# Altium integrated library Altera MAX 7000AE.IntLib: 310 symbols (part 14 of 22)
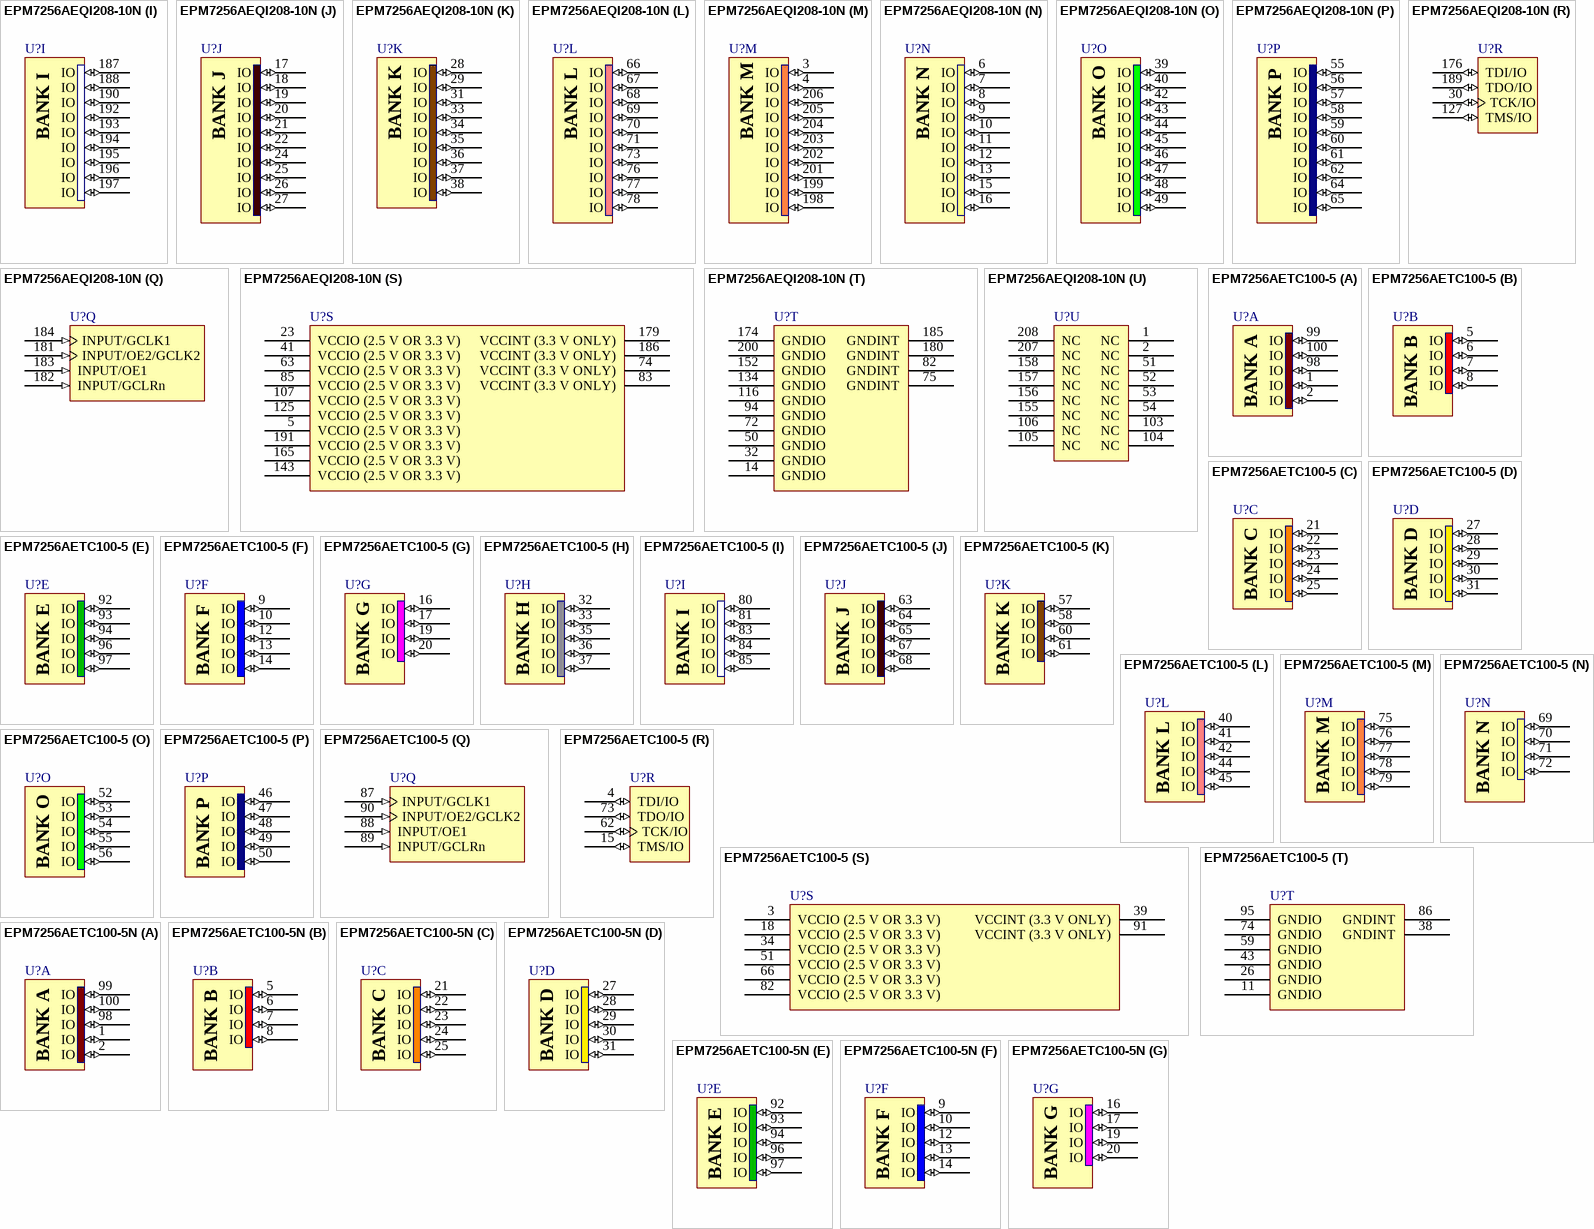
[diagram p140: symbols EPM7256AEQI208-10N to EPM7256AETC100-5N]

## EPM7256AETC100-5
designator U?
MAX 7000AE 3.3V CPLD, 256 Macrocells, 100-Pin TQFP, Speed Grade 5, Commercial Grade; Published: 23-Sep-2002; LatestRevisionDate: 13-Apr-2006; LatestRevisionNote: IPC-7351 Footprint Added.; DatasheetVersion: ver4.5, Sep-2003; PackageVersion: ver15.1, May-2008; PackageReference: TQFP100; Publisher: Altium Limited; PackageDescription: 100-Pin Plastic Thin Quad Flat Pack (TQFP100) - Wire Bond; Supplier 1: Digi-Key; Supplier Part Number 1: 544-2058-ND; Code_JEDEC: MS-026-AED; ComponentLink1Description: Manufacturer Link; ComponentLink1URL: http://www.altera.com/products/devices/max7k/m7k-index.html; ComponentLink2Description: Datasheet; ComponentLink2URL: http://www.altera.com/literature/ds/m7000a.pdf; ComponentLink3Description: Packaging Specification; ComponentLink3URL: http://www.altera.com/literature/ds/dspkg.pdf
footprint TQFP100_N (Thin QFP, 100-Leads, Body 14x14mm, Pitch 0.5mm, IPC Medium Density)
footprint TQFP100_L (Thin QFP, 100-Leads, Body 14x14mm, Pitch 0.5mm, IPC High Density)
footprint TQFP100_M (Thin QFP, 100-Leads, Body 14x14mm, Pitch 0.5mm, IPC Low Density)
3D model EPM7256AE-TQFP100 (100-Pin Plastic Thin Quad Flat Pack (TQFP100) - Wire Bond)
signal-integrity model max7kae (MAX 7000AE)
part A pins: 1 IO (io), 2 IO (io), 98 IO (io), 99 IO (io), 100 IO (io)
part B pins: 5 IO (io), 6 IO (io), 7 IO (io), 8 IO (io)
part C pins: 21 IO (io), 22 IO (io), 23 IO (io), 24 IO (io), 25 IO (io)
part D pins: 27 IO (io), 28 IO (io), 29 IO (io), 30 IO (io), 31 IO (io)
part E pins: 92 IO (io), 93 IO (io), 94 IO (io), 96 IO (io), 97 IO (io)
part F pins: 9 IO (io), 10 IO (io), 12 IO (io), 13 IO (io), 14 IO (io)
part G pins: 16 IO (io), 17 IO (io), 19 IO (io), 20 IO (io)
part H pins: 32 IO (io), 33 IO (io), 35 IO (io), 36 IO (io), 37 IO (io)
part I pins: 80 IO (io), 81 IO (io), 83 IO (io), 84 IO (io), 85 IO (io)
part J pins: 63 IO (io), 64 IO (io), 65 IO (io), 67 IO (io), 68 IO (io)
part K pins: 57 IO (io), 58 IO (io), 60 IO (io), 61 IO (io)
part L pins: 40 IO (io), 41 IO (io), 42 IO (io), 44 IO (io), 45 IO (io)
part M pins: 75 IO (io), 76 IO (io), 77 IO (io), 78 IO (io), 79 IO (io)
part N pins: 69 IO (io), 70 IO (io), 71 IO (io), 72 IO (io)
part O pins: 52 IO (io), 53 IO (io), 54 IO (io), 55 IO (io), 56 IO (io)
part P pins: 46 IO (io), 47 IO (io), 48 IO (io), 49 IO (io), 50 IO (io)
part Q pins: 87 INPUT/GCLK1 (in), 88 INPUT/OE1 (in), 89 INPUT/GCLRn (in), 90 INPUT/OE2/GCLK2 (in)
part R pins: 4 TDI/IO (io), 15 TMS/IO (io), 62 TCK/IO (io), 73 TDO/IO (io)
part S pins: 3 VCCIO (2.5 V OR 3.3 V) (power), 18 VCCIO (2.5 V OR 3.3 V) (power), 34 VCCIO (2.5 V OR 3.3 V) (power), 39 VCCINT (3.3 V ONLY) (power), 51 VCCIO (2.5 V OR 3.3 V) (power), 66 VCCIO (2.5 V OR 3.3 V) (power), 82 VCCIO (2.5 V OR 3.3 V) (power), 91 VCCINT (3.3 V ONLY) (power)
part T pins: 11 GNDIO (power), 26 GNDIO (power), 38 GNDINT (power), 43 GNDIO (power), 59 GNDIO (power), 74 GNDIO (power), 86 GNDINT (power), 95 GNDIO (power)
part A text: BANK A
part B text: BANK B
part C text: BANK C
part D text: BANK D
part E text: BANK E
part F text: BANK F
part G text: BANK G
part H text: BANK H
part I text: BANK I
part J text: BANK J
part K text: BANK K
part L text: BANK L
part M text: BANK M
part N text: BANK N
part O text: BANK O
part P text: BANK P

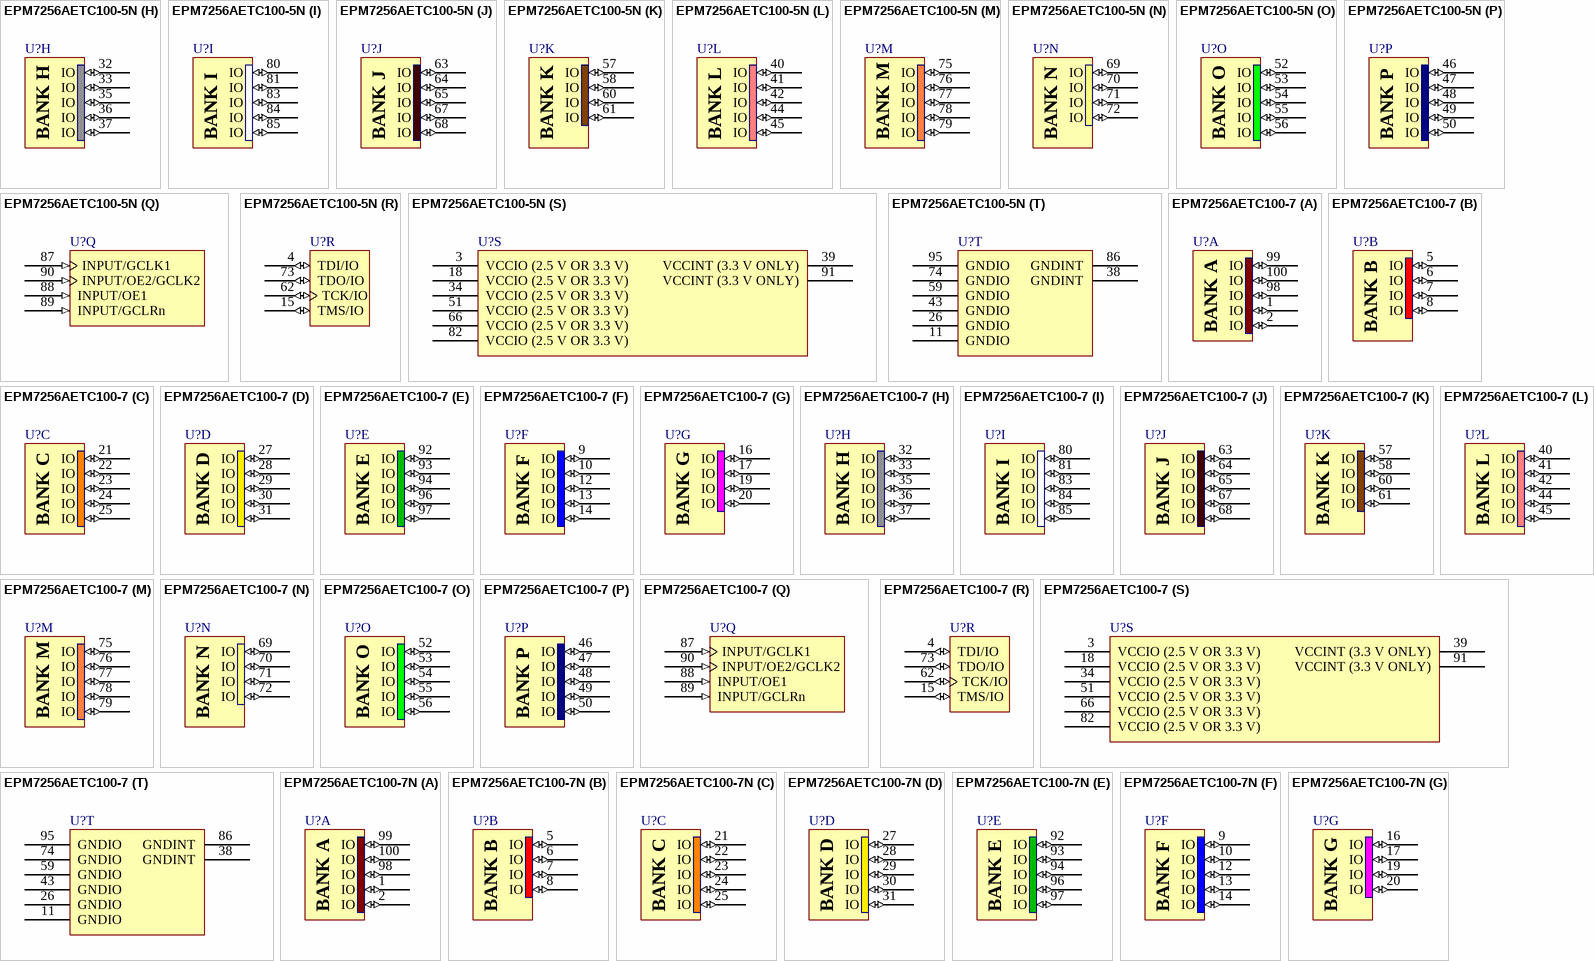
[diagram p72: symbols EPM7256AETC100-5N to EPM7256AETC100-7N]

## EPM7256AETC100-5N
designator U?
MAX 7000AE 3.3V CPLD, 256 Macrocells, 100-Pin TQFP, Speed Grade 5, Commercial Grade, Pb-Free; Published: 18-Aug-2005; LatestRevisionDate: 13-Apr-2006; LatestRevisionNote: IPC-7351 Footprint Added.; DatasheetVersion: ver4.5, Sep-2003; PackageVersion: ver15.1, May-2008; PackageReference: TQFP100; Publisher: Altium Limited; PackageDescription: 100-Pin Plastic Thin Quad Flat Pack (TQFP100) - Wire Bond; Supplier 1: Digi-Key; Supplier Part Number 1: EPM7256AETC100-5N-ND; Code_JEDEC: MS-026-AED; ComponentLink1Description: Manufacturer Link; ComponentLink1URL: http://www.altera.com/products/devices/max7k/m7k-index.html; ComponentLink2Description: Datasheet; ComponentLink2URL: http://www.altera.com/literature/ds/m7000a.pdf; ComponentLink3Description: Packaging Specification; ComponentLink3URL: http://www.altera.com/literature/ds/dspkg.pdf
footprint TQFP100_N (Thin QFP, 100-Leads, Body 14x14mm, Pitch 0.5mm, IPC Medium Density)
footprint TQFP100_L (Thin QFP, 100-Leads, Body 14x14mm, Pitch 0.5mm, IPC High Density)
footprint TQFP100_M (Thin QFP, 100-Leads, Body 14x14mm, Pitch 0.5mm, IPC Low Density)
3D model EPM7256AE-TQFP100 (100-Pin Plastic Thin Quad Flat Pack (TQFP100) - Wire Bond)
signal-integrity model max7kae (MAX 7000AE)
part A pins: 1 IO (io), 2 IO (io), 98 IO (io), 99 IO (io), 100 IO (io)
part B pins: 5 IO (io), 6 IO (io), 7 IO (io), 8 IO (io)
part C pins: 21 IO (io), 22 IO (io), 23 IO (io), 24 IO (io), 25 IO (io)
part D pins: 27 IO (io), 28 IO (io), 29 IO (io), 30 IO (io), 31 IO (io)
part E pins: 92 IO (io), 93 IO (io), 94 IO (io), 96 IO (io), 97 IO (io)
part F pins: 9 IO (io), 10 IO (io), 12 IO (io), 13 IO (io), 14 IO (io)
part G pins: 16 IO (io), 17 IO (io), 19 IO (io), 20 IO (io)
part H pins: 32 IO (io), 33 IO (io), 35 IO (io), 36 IO (io), 37 IO (io)
part I pins: 80 IO (io), 81 IO (io), 83 IO (io), 84 IO (io), 85 IO (io)
part J pins: 63 IO (io), 64 IO (io), 65 IO (io), 67 IO (io), 68 IO (io)
part K pins: 57 IO (io), 58 IO (io), 60 IO (io), 61 IO (io)
part L pins: 40 IO (io), 41 IO (io), 42 IO (io), 44 IO (io), 45 IO (io)
part M pins: 75 IO (io), 76 IO (io), 77 IO (io), 78 IO (io), 79 IO (io)
part N pins: 69 IO (io), 70 IO (io), 71 IO (io), 72 IO (io)
part O pins: 52 IO (io), 53 IO (io), 54 IO (io), 55 IO (io), 56 IO (io)
part P pins: 46 IO (io), 47 IO (io), 48 IO (io), 49 IO (io), 50 IO (io)
part Q pins: 87 INPUT/GCLK1 (in), 88 INPUT/OE1 (in), 89 INPUT/GCLRn (in), 90 INPUT/OE2/GCLK2 (in)
part R pins: 4 TDI/IO (io), 15 TMS/IO (io), 62 TCK/IO (io), 73 TDO/IO (io)
part S pins: 3 VCCIO (2.5 V OR 3.3 V) (power), 18 VCCIO (2.5 V OR 3.3 V) (power), 34 VCCIO (2.5 V OR 3.3 V) (power), 39 VCCINT (3.3 V ONLY) (power), 51 VCCIO (2.5 V OR 3.3 V) (power), 66 VCCIO (2.5 V OR 3.3 V) (power), 82 VCCIO (2.5 V OR 3.3 V) (power), 91 VCCINT (3.3 V ONLY) (power)
part T pins: 11 GNDIO (power), 26 GNDIO (power), 38 GNDINT (power), 43 GNDIO (power), 59 GNDIO (power), 74 GNDIO (power), 86 GNDINT (power), 95 GNDIO (power)
part A text: BANK A
part B text: BANK B
part C text: BANK C
part D text: BANK D
part E text: BANK E
part F text: BANK F
part G text: BANK G
part H text: BANK H
part I text: BANK I
part J text: BANK J
part K text: BANK K
part L text: BANK L
part M text: BANK M
part N text: BANK N
part O text: BANK O
part P text: BANK P

## EPM7256AETC100-7
designator U?
MAX 7000AE 3.3V CPLD, 256 Macrocells, 100-Pin TQFP, Speed Grade 7, Commercial Grade; Published: 23-Sep-2002; LatestRevisionDate: 13-Apr-2006; LatestRevisionNote: IPC-7351 Footprint Added.; DatasheetVersion: ver4.5, Sep-2003; PackageVersion: ver15.1, May-2008; PackageReference: TQFP100; Publisher: Altium Limited; PackageDescription: 100-Pin Plastic Thin Quad Flat Pack (TQFP100) - Wire Bond; Supplier 1: Digi-Key; Supplier Part Number 1: 544-2351-ND; Code_JEDEC: MS-026-AED; ComponentLink1Description: Manufacturer Link; ComponentLink1URL: http://www.altera.com/products/devices/max7k/m7k-index.html; ComponentLink2Description: Datasheet; ComponentLink2URL: http://www.altera.com/literature/ds/m7000a.pdf; ComponentLink3Description: Packaging Specification; ComponentLink3URL: http://www.altera.com/literature/ds/dspkg.pdf
footprint TQFP100_N (Thin QFP, 100-Leads, Body 14x14mm, Pitch 0.5mm, IPC Medium Density)
footprint TQFP100_L (Thin QFP, 100-Leads, Body 14x14mm, Pitch 0.5mm, IPC High Density)
footprint TQFP100_M (Thin QFP, 100-Leads, Body 14x14mm, Pitch 0.5mm, IPC Low Density)
3D model EPM7256AE-TQFP100 (100-Pin Plastic Thin Quad Flat Pack (TQFP100) - Wire Bond)
signal-integrity model max7kae (MAX 7000AE)
part A pins: 1 IO (io), 2 IO (io), 98 IO (io), 99 IO (io), 100 IO (io)
part B pins: 5 IO (io), 6 IO (io), 7 IO (io), 8 IO (io)
part C pins: 21 IO (io), 22 IO (io), 23 IO (io), 24 IO (io), 25 IO (io)
part D pins: 27 IO (io), 28 IO (io), 29 IO (io), 30 IO (io), 31 IO (io)
part E pins: 92 IO (io), 93 IO (io), 94 IO (io), 96 IO (io), 97 IO (io)
part F pins: 9 IO (io), 10 IO (io), 12 IO (io), 13 IO (io), 14 IO (io)
part G pins: 16 IO (io), 17 IO (io), 19 IO (io), 20 IO (io)
part H pins: 32 IO (io), 33 IO (io), 35 IO (io), 36 IO (io), 37 IO (io)
part I pins: 80 IO (io), 81 IO (io), 83 IO (io), 84 IO (io), 85 IO (io)
part J pins: 63 IO (io), 64 IO (io), 65 IO (io), 67 IO (io), 68 IO (io)
part K pins: 57 IO (io), 58 IO (io), 60 IO (io), 61 IO (io)
part L pins: 40 IO (io), 41 IO (io), 42 IO (io), 44 IO (io), 45 IO (io)
part M pins: 75 IO (io), 76 IO (io), 77 IO (io), 78 IO (io), 79 IO (io)
part N pins: 69 IO (io), 70 IO (io), 71 IO (io), 72 IO (io)
part O pins: 52 IO (io), 53 IO (io), 54 IO (io), 55 IO (io), 56 IO (io)
part P pins: 46 IO (io), 47 IO (io), 48 IO (io), 49 IO (io), 50 IO (io)
part Q pins: 87 INPUT/GCLK1 (in), 88 INPUT/OE1 (in), 89 INPUT/GCLRn (in), 90 INPUT/OE2/GCLK2 (in)
part R pins: 4 TDI/IO (io), 15 TMS/IO (io), 62 TCK/IO (io), 73 TDO/IO (io)
part S pins: 3 VCCIO (2.5 V OR 3.3 V) (power), 18 VCCIO (2.5 V OR 3.3 V) (power), 34 VCCIO (2.5 V OR 3.3 V) (power), 39 VCCINT (3.3 V ONLY) (power), 51 VCCIO (2.5 V OR 3.3 V) (power), 66 VCCIO (2.5 V OR 3.3 V) (power), 82 VCCIO (2.5 V OR 3.3 V) (power), 91 VCCINT (3.3 V ONLY) (power)
part T pins: 11 GNDIO (power), 26 GNDIO (power), 38 GNDINT (power), 43 GNDIO (power), 59 GNDIO (power), 74 GNDIO (power), 86 GNDINT (power), 95 GNDIO (power)
part A text: BANK A
part B text: BANK B
part C text: BANK C
part D text: BANK D
part E text: BANK E
part F text: BANK F
part G text: BANK G
part H text: BANK H
part I text: BANK I
part J text: BANK J
part K text: BANK K
part L text: BANK L
part M text: BANK M
part N text: BANK N
part O text: BANK O
part P text: BANK P

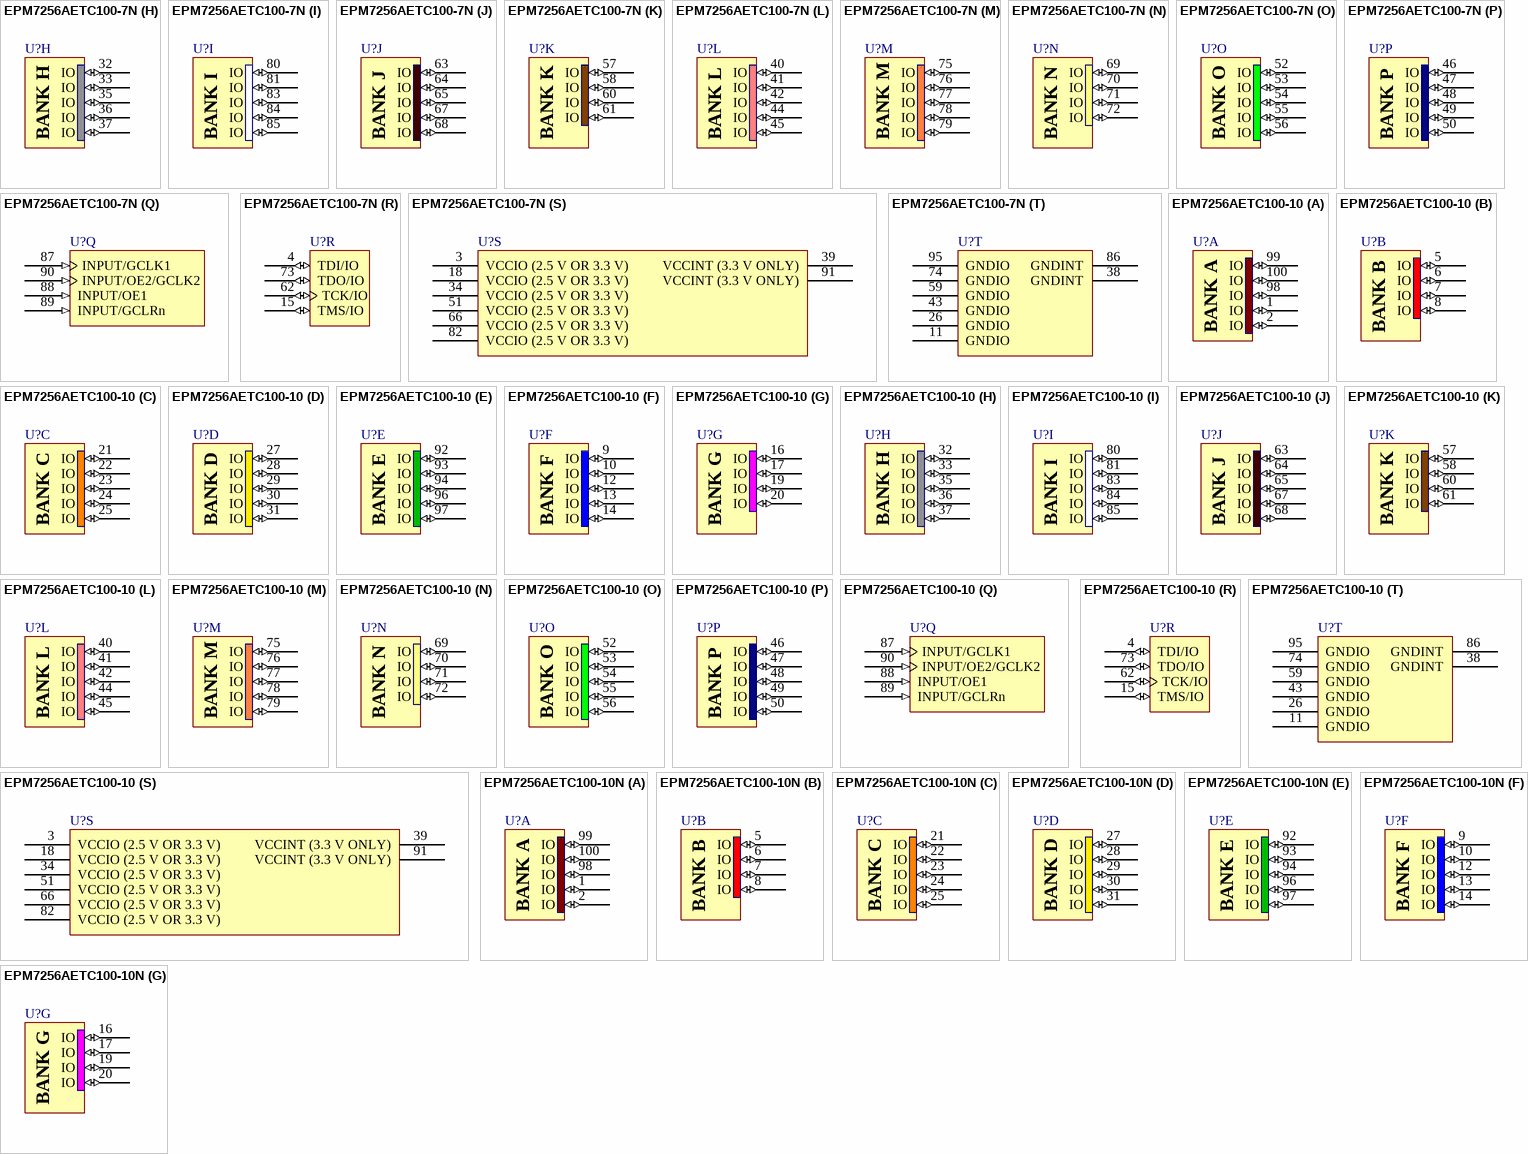
[diagram p73: symbols EPM7256AETC100-7N to EPM7256AETC100-10N]

## EPM7256AETC100-7N
designator U?
MAX 7000AE 3.3V CPLD, 256 Macrocells, 100-Pin TQFP, Speed Grade 7, Commercial Grade, Pb-Free; Published: 4-Mar-2005; LatestRevisionDate: 13-Apr-2006; LatestRevisionNote: IPC-7351 Footprint Added.; DatasheetVersion: ver4.5, Sep-2003; PackageVersion: ver15.1, May-2008; PackageReference: TQFP100; Publisher: Altium Limited; PackageDescription: 100-Pin Plastic Thin Quad Flat Pack (TQFP100) - Wire Bond; Supplier 1: Digi-Key; Supplier Part Number 1: 544-2352-ND; Code_JEDEC: MS-026-AED; ComponentLink1Description: Manufacturer Link; ComponentLink1URL: http://www.altera.com/products/devices/max7k/m7k-index.html; ComponentLink2Description: Datasheet; ComponentLink2URL: http://www.altera.com/literature/ds/m7000a.pdf; ComponentLink3Description: Packaging Specification; ComponentLink3URL: http://www.altera.com/literature/ds/dspkg.pdf
footprint TQFP100_N (Thin QFP, 100-Leads, Body 14x14mm, Pitch 0.5mm, IPC Medium Density)
footprint TQFP100_L (Thin QFP, 100-Leads, Body 14x14mm, Pitch 0.5mm, IPC High Density)
footprint TQFP100_M (Thin QFP, 100-Leads, Body 14x14mm, Pitch 0.5mm, IPC Low Density)
3D model EPM7256AE-TQFP100 (100-Pin Plastic Thin Quad Flat Pack (TQFP100) - Wire Bond)
signal-integrity model max7kae (MAX 7000AE)
part A pins: 1 IO (io), 2 IO (io), 98 IO (io), 99 IO (io), 100 IO (io)
part B pins: 5 IO (io), 6 IO (io), 7 IO (io), 8 IO (io)
part C pins: 21 IO (io), 22 IO (io), 23 IO (io), 24 IO (io), 25 IO (io)
part D pins: 27 IO (io), 28 IO (io), 29 IO (io), 30 IO (io), 31 IO (io)
part E pins: 92 IO (io), 93 IO (io), 94 IO (io), 96 IO (io), 97 IO (io)
part F pins: 9 IO (io), 10 IO (io), 12 IO (io), 13 IO (io), 14 IO (io)
part G pins: 16 IO (io), 17 IO (io), 19 IO (io), 20 IO (io)
part H pins: 32 IO (io), 33 IO (io), 35 IO (io), 36 IO (io), 37 IO (io)
part I pins: 80 IO (io), 81 IO (io), 83 IO (io), 84 IO (io), 85 IO (io)
part J pins: 63 IO (io), 64 IO (io), 65 IO (io), 67 IO (io), 68 IO (io)
part K pins: 57 IO (io), 58 IO (io), 60 IO (io), 61 IO (io)
part L pins: 40 IO (io), 41 IO (io), 42 IO (io), 44 IO (io), 45 IO (io)
part M pins: 75 IO (io), 76 IO (io), 77 IO (io), 78 IO (io), 79 IO (io)
part N pins: 69 IO (io), 70 IO (io), 71 IO (io), 72 IO (io)
part O pins: 52 IO (io), 53 IO (io), 54 IO (io), 55 IO (io), 56 IO (io)
part P pins: 46 IO (io), 47 IO (io), 48 IO (io), 49 IO (io), 50 IO (io)
part Q pins: 87 INPUT/GCLK1 (in), 88 INPUT/OE1 (in), 89 INPUT/GCLRn (in), 90 INPUT/OE2/GCLK2 (in)
part R pins: 4 TDI/IO (io), 15 TMS/IO (io), 62 TCK/IO (io), 73 TDO/IO (io)
part S pins: 3 VCCIO (2.5 V OR 3.3 V) (power), 18 VCCIO (2.5 V OR 3.3 V) (power), 34 VCCIO (2.5 V OR 3.3 V) (power), 39 VCCINT (3.3 V ONLY) (power), 51 VCCIO (2.5 V OR 3.3 V) (power), 66 VCCIO (2.5 V OR 3.3 V) (power), 82 VCCIO (2.5 V OR 3.3 V) (power), 91 VCCINT (3.3 V ONLY) (power)
part T pins: 11 GNDIO (power), 26 GNDIO (power), 38 GNDINT (power), 43 GNDIO (power), 59 GNDIO (power), 74 GNDIO (power), 86 GNDINT (power), 95 GNDIO (power)
part A text: BANK A
part B text: BANK B
part C text: BANK C
part D text: BANK D
part E text: BANK E
part F text: BANK F
part G text: BANK G
part H text: BANK H
part I text: BANK I
part J text: BANK J
part K text: BANK K
part L text: BANK L
part M text: BANK M
part N text: BANK N
part O text: BANK O
part P text: BANK P

## EPM7256AETC100-10
designator U?
MAX 7000AE 3.3V CPLD, 256 Macrocells, 100-Pin TQFP, Speed Grade 10, Commercial Grade; Published: 23-Sep-2002; LatestRevisionDate: 13-Apr-2006; LatestRevisionNote: IPC-7351 Footprint Added.; DatasheetVersion: ver4.5, Sep-2003; PackageVersion: ver15.1, May-2008; PackageReference: TQFP100; Publisher: Altium Limited; PackageDescription: 100-Pin Plastic Thin Quad Flat Pack (TQFP100) - Wire Bond; Supplier 1: Digi-Key; Supplier Part Number 1: 544-1217-ND; Code_JEDEC: MS-026-AED; ComponentLink1Description: Manufacturer Link; ComponentLink1URL: http://www.altera.com/products/devices/max7k/m7k-index.html; ComponentLink2Description: Datasheet; ComponentLink2URL: http://www.altera.com/literature/ds/m7000a.pdf; ComponentLink3Description: Packaging Specification; ComponentLink3URL: http://www.altera.com/literature/ds/dspkg.pdf
footprint TQFP100_N (Thin QFP, 100-Leads, Body 14x14mm, Pitch 0.5mm, IPC Medium Density)
footprint TQFP100_L (Thin QFP, 100-Leads, Body 14x14mm, Pitch 0.5mm, IPC High Density)
footprint TQFP100_M (Thin QFP, 100-Leads, Body 14x14mm, Pitch 0.5mm, IPC Low Density)
3D model EPM7256AE-TQFP100 (100-Pin Plastic Thin Quad Flat Pack (TQFP100) - Wire Bond)
signal-integrity model max7kae (MAX 7000AE)
part A pins: 1 IO (io), 2 IO (io), 98 IO (io), 99 IO (io), 100 IO (io)
part B pins: 5 IO (io), 6 IO (io), 7 IO (io), 8 IO (io)
part C pins: 21 IO (io), 22 IO (io), 23 IO (io), 24 IO (io), 25 IO (io)
part D pins: 27 IO (io), 28 IO (io), 29 IO (io), 30 IO (io), 31 IO (io)
part E pins: 92 IO (io), 93 IO (io), 94 IO (io), 96 IO (io), 97 IO (io)
part F pins: 9 IO (io), 10 IO (io), 12 IO (io), 13 IO (io), 14 IO (io)
part G pins: 16 IO (io), 17 IO (io), 19 IO (io), 20 IO (io)
part H pins: 32 IO (io), 33 IO (io), 35 IO (io), 36 IO (io), 37 IO (io)
part I pins: 80 IO (io), 81 IO (io), 83 IO (io), 84 IO (io), 85 IO (io)
part J pins: 63 IO (io), 64 IO (io), 65 IO (io), 67 IO (io), 68 IO (io)
part K pins: 57 IO (io), 58 IO (io), 60 IO (io), 61 IO (io)
part L pins: 40 IO (io), 41 IO (io), 42 IO (io), 44 IO (io), 45 IO (io)
part M pins: 75 IO (io), 76 IO (io), 77 IO (io), 78 IO (io), 79 IO (io)
part N pins: 69 IO (io), 70 IO (io), 71 IO (io), 72 IO (io)
part O pins: 52 IO (io), 53 IO (io), 54 IO (io), 55 IO (io), 56 IO (io)
part P pins: 46 IO (io), 47 IO (io), 48 IO (io), 49 IO (io), 50 IO (io)
part Q pins: 87 INPUT/GCLK1 (in), 88 INPUT/OE1 (in), 89 INPUT/GCLRn (in), 90 INPUT/OE2/GCLK2 (in)
part R pins: 4 TDI/IO (io), 15 TMS/IO (io), 62 TCK/IO (io), 73 TDO/IO (io)
part S pins: 3 VCCIO (2.5 V OR 3.3 V) (power), 18 VCCIO (2.5 V OR 3.3 V) (power), 34 VCCIO (2.5 V OR 3.3 V) (power), 39 VCCINT (3.3 V ONLY) (power), 51 VCCIO (2.5 V OR 3.3 V) (power), 66 VCCIO (2.5 V OR 3.3 V) (power), 82 VCCIO (2.5 V OR 3.3 V) (power), 91 VCCINT (3.3 V ONLY) (power)
part T pins: 11 GNDIO (power), 26 GNDIO (power), 38 GNDINT (power), 43 GNDIO (power), 59 GNDIO (power), 74 GNDIO (power), 86 GNDINT (power), 95 GNDIO (power)
part A text: BANK A
part B text: BANK B
part C text: BANK C
part D text: BANK D
part E text: BANK E
part F text: BANK F
part G text: BANK G
part H text: BANK H
part I text: BANK I
part J text: BANK J
part K text: BANK K
part L text: BANK L
part M text: BANK M
part N text: BANK N
part O text: BANK O
part P text: BANK P

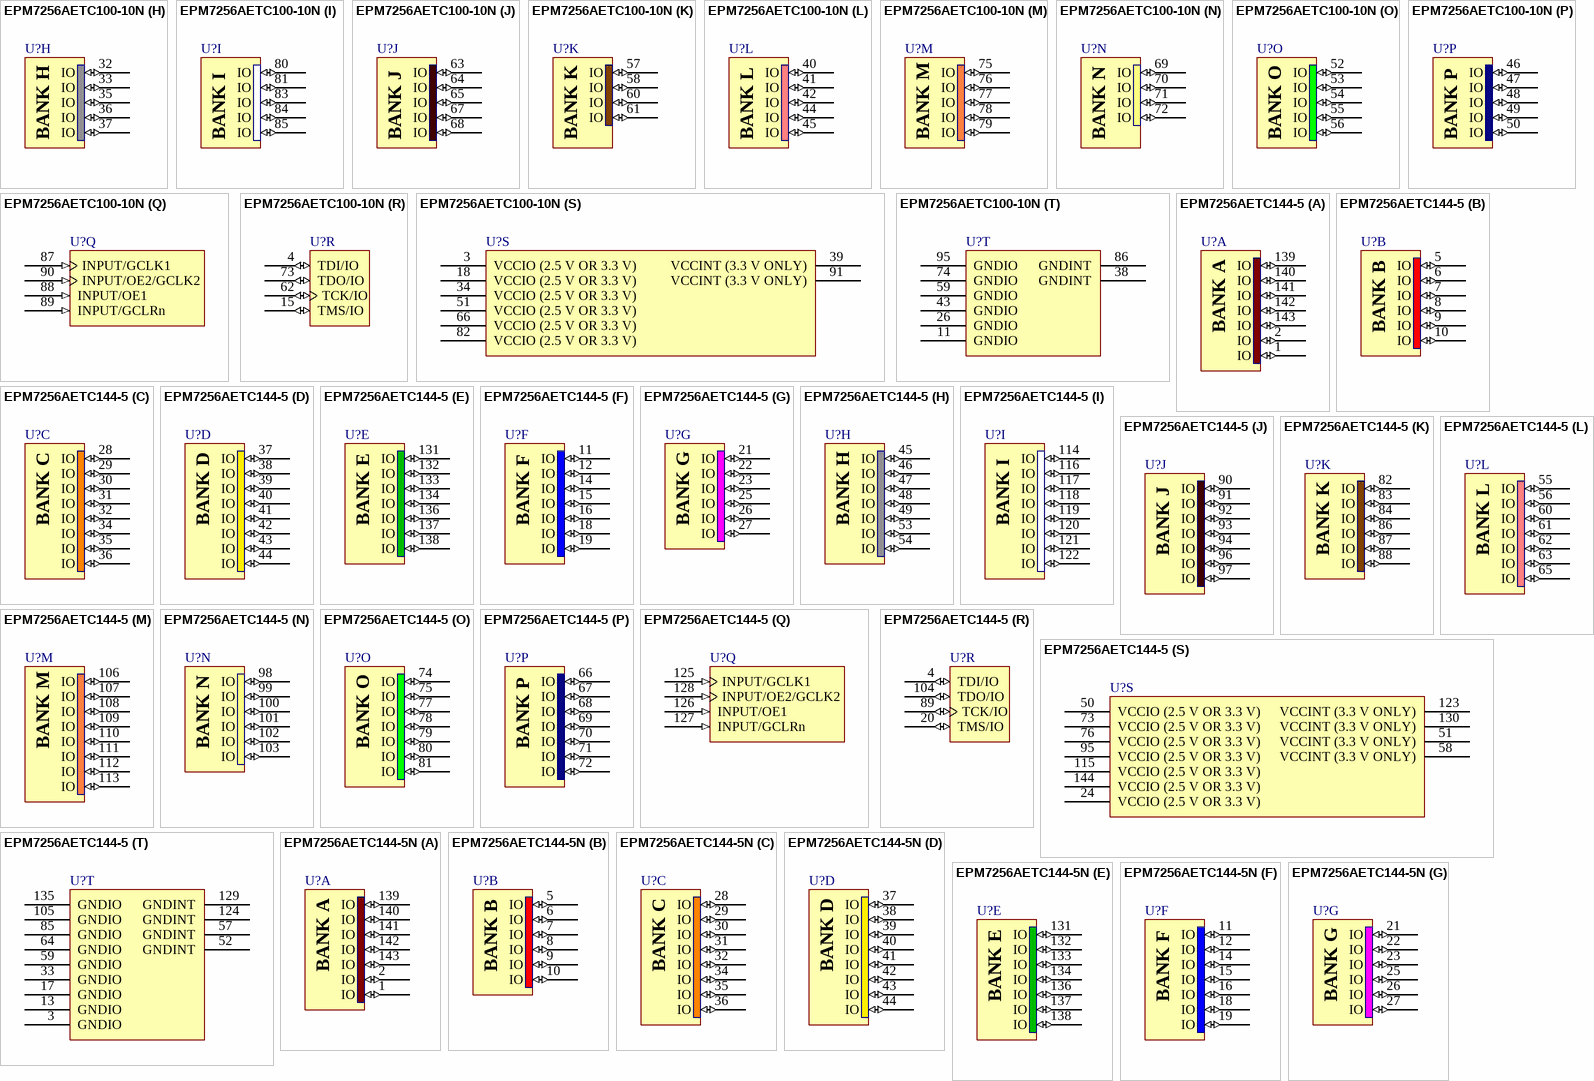
[diagram p74: symbols EPM7256AETC100-10N to EPM7256AETC144-5N]

## EPM7256AETC100-10N
designator U?
MAX 7000AE 3.3V CPLD, 256 Macrocells, 100-Pin TQFP, Speed Grade 10, Commercial Grade, Pb-Free; Published: 4-Mar-2005; LatestRevisionDate: 13-Apr-2006; LatestRevisionNote: IPC-7351 Footprint Added.; DatasheetVersion: ver4.5, Sep-2003; PackageVersion: ver15.1, May-2008; PackageReference: TQFP100; Publisher: Altium Limited; PackageDescription: 100-Pin Plastic Thin Quad Flat Pack (TQFP100) - Wire Bond; Supplier 1: Digi-Key; Supplier Part Number 1: 544-2057-ND; Code_JEDEC: MS-026-AED; ComponentLink1Description: Manufacturer Link; ComponentLink1URL: http://www.altera.com/products/devices/max7k/m7k-index.html; ComponentLink2Description: Datasheet; ComponentLink2URL: http://www.altera.com/literature/ds/m7000a.pdf; ComponentLink3Description: Packaging Specification; ComponentLink3URL: http://www.altera.com/literature/ds/dspkg.pdf
footprint TQFP100_N (Thin QFP, 100-Leads, Body 14x14mm, Pitch 0.5mm, IPC Medium Density)
footprint TQFP100_L (Thin QFP, 100-Leads, Body 14x14mm, Pitch 0.5mm, IPC High Density)
footprint TQFP100_M (Thin QFP, 100-Leads, Body 14x14mm, Pitch 0.5mm, IPC Low Density)
3D model EPM7256AE-TQFP100 (100-Pin Plastic Thin Quad Flat Pack (TQFP100) - Wire Bond)
signal-integrity model max7kae (MAX 7000AE)
part A pins: 1 IO (io), 2 IO (io), 98 IO (io), 99 IO (io), 100 IO (io)
part B pins: 5 IO (io), 6 IO (io), 7 IO (io), 8 IO (io)
part C pins: 21 IO (io), 22 IO (io), 23 IO (io), 24 IO (io), 25 IO (io)
part D pins: 27 IO (io), 28 IO (io), 29 IO (io), 30 IO (io), 31 IO (io)
part E pins: 92 IO (io), 93 IO (io), 94 IO (io), 96 IO (io), 97 IO (io)
part F pins: 9 IO (io), 10 IO (io), 12 IO (io), 13 IO (io), 14 IO (io)
part G pins: 16 IO (io), 17 IO (io), 19 IO (io), 20 IO (io)
part H pins: 32 IO (io), 33 IO (io), 35 IO (io), 36 IO (io), 37 IO (io)
part I pins: 80 IO (io), 81 IO (io), 83 IO (io), 84 IO (io), 85 IO (io)
part J pins: 63 IO (io), 64 IO (io), 65 IO (io), 67 IO (io), 68 IO (io)
part K pins: 57 IO (io), 58 IO (io), 60 IO (io), 61 IO (io)
part L pins: 40 IO (io), 41 IO (io), 42 IO (io), 44 IO (io), 45 IO (io)
part M pins: 75 IO (io), 76 IO (io), 77 IO (io), 78 IO (io), 79 IO (io)
part N pins: 69 IO (io), 70 IO (io), 71 IO (io), 72 IO (io)
part O pins: 52 IO (io), 53 IO (io), 54 IO (io), 55 IO (io), 56 IO (io)
part P pins: 46 IO (io), 47 IO (io), 48 IO (io), 49 IO (io), 50 IO (io)
part Q pins: 87 INPUT/GCLK1 (in), 88 INPUT/OE1 (in), 89 INPUT/GCLRn (in), 90 INPUT/OE2/GCLK2 (in)
part R pins: 4 TDI/IO (io), 15 TMS/IO (io), 62 TCK/IO (io), 73 TDO/IO (io)
part S pins: 3 VCCIO (2.5 V OR 3.3 V) (power), 18 VCCIO (2.5 V OR 3.3 V) (power), 34 VCCIO (2.5 V OR 3.3 V) (power), 39 VCCINT (3.3 V ONLY) (power), 51 VCCIO (2.5 V OR 3.3 V) (power), 66 VCCIO (2.5 V OR 3.3 V) (power), 82 VCCIO (2.5 V OR 3.3 V) (power), 91 VCCINT (3.3 V ONLY) (power)
part T pins: 11 GNDIO (power), 26 GNDIO (power), 38 GNDINT (power), 43 GNDIO (power), 59 GNDIO (power), 74 GNDIO (power), 86 GNDINT (power), 95 GNDIO (power)
part A text: BANK A
part B text: BANK B
part C text: BANK C
part D text: BANK D
part E text: BANK E
part F text: BANK F
part G text: BANK G
part H text: BANK H
part I text: BANK I
part J text: BANK J
part K text: BANK K
part L text: BANK L
part M text: BANK M
part N text: BANK N
part O text: BANK O
part P text: BANK P

## EPM7256AETC144-5
designator U?
MAX 7000AE 3.3V CPLD, 256 Macrocells, 144-Pin TQFP, Speed Grade 5, Commercial Grade; Published: 23-Sep-2002; LatestRevisionDate: 13-Apr-2006; LatestRevisionNote: IPC-7351 Footprint Added.; DatasheetVersion: ver4.5, Sep-2003; PackageVersion: ver15.4, Dec-2008; PackageReference: TQFP144; Publisher: Altium Limited; PackageDescription: 144-Pin Plastic Thin Quad Flat Pack (TQFP144) - Wire Bond; Supplier 1: Digi-Key; Supplier Part Number 1: 544-2060-ND; Code_JEDEC: MS-026-BFB; ComponentLink1Description: Manufacturer Link; ComponentLink1URL: http://www.altera.com/products/devices/max7k/m7k-index.html; ComponentLink2Description: Datasheet; ComponentLink2URL: http://www.altera.com/literature/ds/m7000a.pdf; ComponentLink3Description: Packaging Specification; ComponentLink3URL: http://www.altera.com/literature/ds/dspkg.pdf
footprint TQFP144_N (Thin QFP, 144-Leads, Body 20x20mm, Pitch 0.5mm, IPC Medium Density)
footprint TQFP144_L (Thin QFP, 144-Leads, Body 20x20mm, Pitch 0.5mm, IPC High Density)
footprint TQFP144_M (Thin QFP, 144-Leads, Body 20x20mm, Pitch 0.5mm, IPC Low Density)
3D model EPM7256AE-TQFP144 (144-Pin Plastic Thin Quad Flat Pack (TQFP144) - Wire Bond)
signal-integrity model max7kae (MAX 7000AE)
part A pins: 1 IO (io), 2 IO (io), 139 IO (io), 140 IO (io), 141 IO (io), 142 IO (io), 143 IO (io)
part B pins: 5 IO (io), 6 IO (io), 7 IO (io), 8 IO (io), 9 IO (io), 10 IO (io)
part C pins: 28 IO (io), 29 IO (io), 30 IO (io), 31 IO (io), 32 IO (io), 34 IO (io), 35 IO (io), 36 IO (io)
part D pins: 37 IO (io), 38 IO (io), 39 IO (io), 40 IO (io), 41 IO (io), 42 IO (io), 43 IO (io), 44 IO (io)
part E pins: 131 IO (io), 132 IO (io), 133 IO (io), 134 IO (io), 136 IO (io), 137 IO (io), 138 IO (io)
part F pins: 11 IO (io), 12 IO (io), 14 IO (io), 15 IO (io), 16 IO (io), 18 IO (io), 19 IO (io)
part G pins: 21 IO (io), 22 IO (io), 23 IO (io), 25 IO (io), 26 IO (io), 27 IO (io)
part H pins: 45 IO (io), 46 IO (io), 47 IO (io), 48 IO (io), 49 IO (io), 53 IO (io), 54 IO (io)
part I pins: 114 IO (io), 116 IO (io), 117 IO (io), 118 IO (io), 119 IO (io), 120 IO (io), 121 IO (io), 122 IO (io)
part J pins: 90 IO (io), 91 IO (io), 92 IO (io), 93 IO (io), 94 IO (io), 96 IO (io), 97 IO (io)
part K pins: 82 IO (io), 83 IO (io), 84 IO (io), 86 IO (io), 87 IO (io), 88 IO (io)
part L pins: 55 IO (io), 56 IO (io), 60 IO (io), 61 IO (io), 62 IO (io), 63 IO (io), 65 IO (io)
part M pins: 106 IO (io), 107 IO (io), 108 IO (io), 109 IO (io), 110 IO (io), 111 IO (io), 112 IO (io), 113 IO (io)
part N pins: 98 IO (io), 99 IO (io), 100 IO (io), 101 IO (io), 102 IO (io), 103 IO (io)
part O pins: 74 IO (io), 75 IO (io), 77 IO (io), 78 IO (io), 79 IO (io), 80 IO (io), 81 IO (io)
part P pins: 66 IO (io), 67 IO (io), 68 IO (io), 69 IO (io), 70 IO (io), 71 IO (io), 72 IO (io)
part Q pins: 125 INPUT/GCLK1 (in), 126 INPUT/OE1 (in), 127 INPUT/GCLRn (in), 128 INPUT/OE2/GCLK2 (in)
part R pins: 4 TDI/IO (io), 20 TMS/IO (io), 89 TCK/IO (io), 104 TDO/IO (io)
part S pins: 24 VCCIO (2.5 V OR 3.3 V) (power), 50 VCCIO (2.5 V OR 3.3 V) (power), 51 VCCINT (3.3 V ONLY) (power), 58 VCCINT (3.3 V ONLY) (power), 73 VCCIO (2.5 V OR 3.3 V) (power), 76 VCCIO (2.5 V OR 3.3 V) (power), 95 VCCIO (2.5 V OR 3.3 V) (power), 115 VCCIO (2.5 V OR 3.3 V) (power), 123 VCCINT (3.3 V ONLY) (power), 130 VCCINT (3.3 V ONLY) (power), 144 VCCIO (2.5 V OR 3.3 V) (power)
part T pins: 3 GNDIO (power), 13 GNDIO (power), 17 GNDIO (power), 33 GNDIO (power), 52 GNDINT (power), 57 GNDINT (power), 59 GNDIO (power), 64 GNDIO (power), 85 GNDIO (power), 105 GNDIO (power), 124 GNDINT (power), 129 GNDINT (power), 135 GNDIO (power)
part A text: BANK A
part B text: BANK B
part C text: BANK C
part D text: BANK D
part E text: BANK E
part F text: BANK F
part G text: BANK G
part H text: BANK H
part I text: BANK I
part J text: BANK J
part K text: BANK K
part L text: BANK L
part M text: BANK M
part N text: BANK N
part O text: BANK O
part P text: BANK P

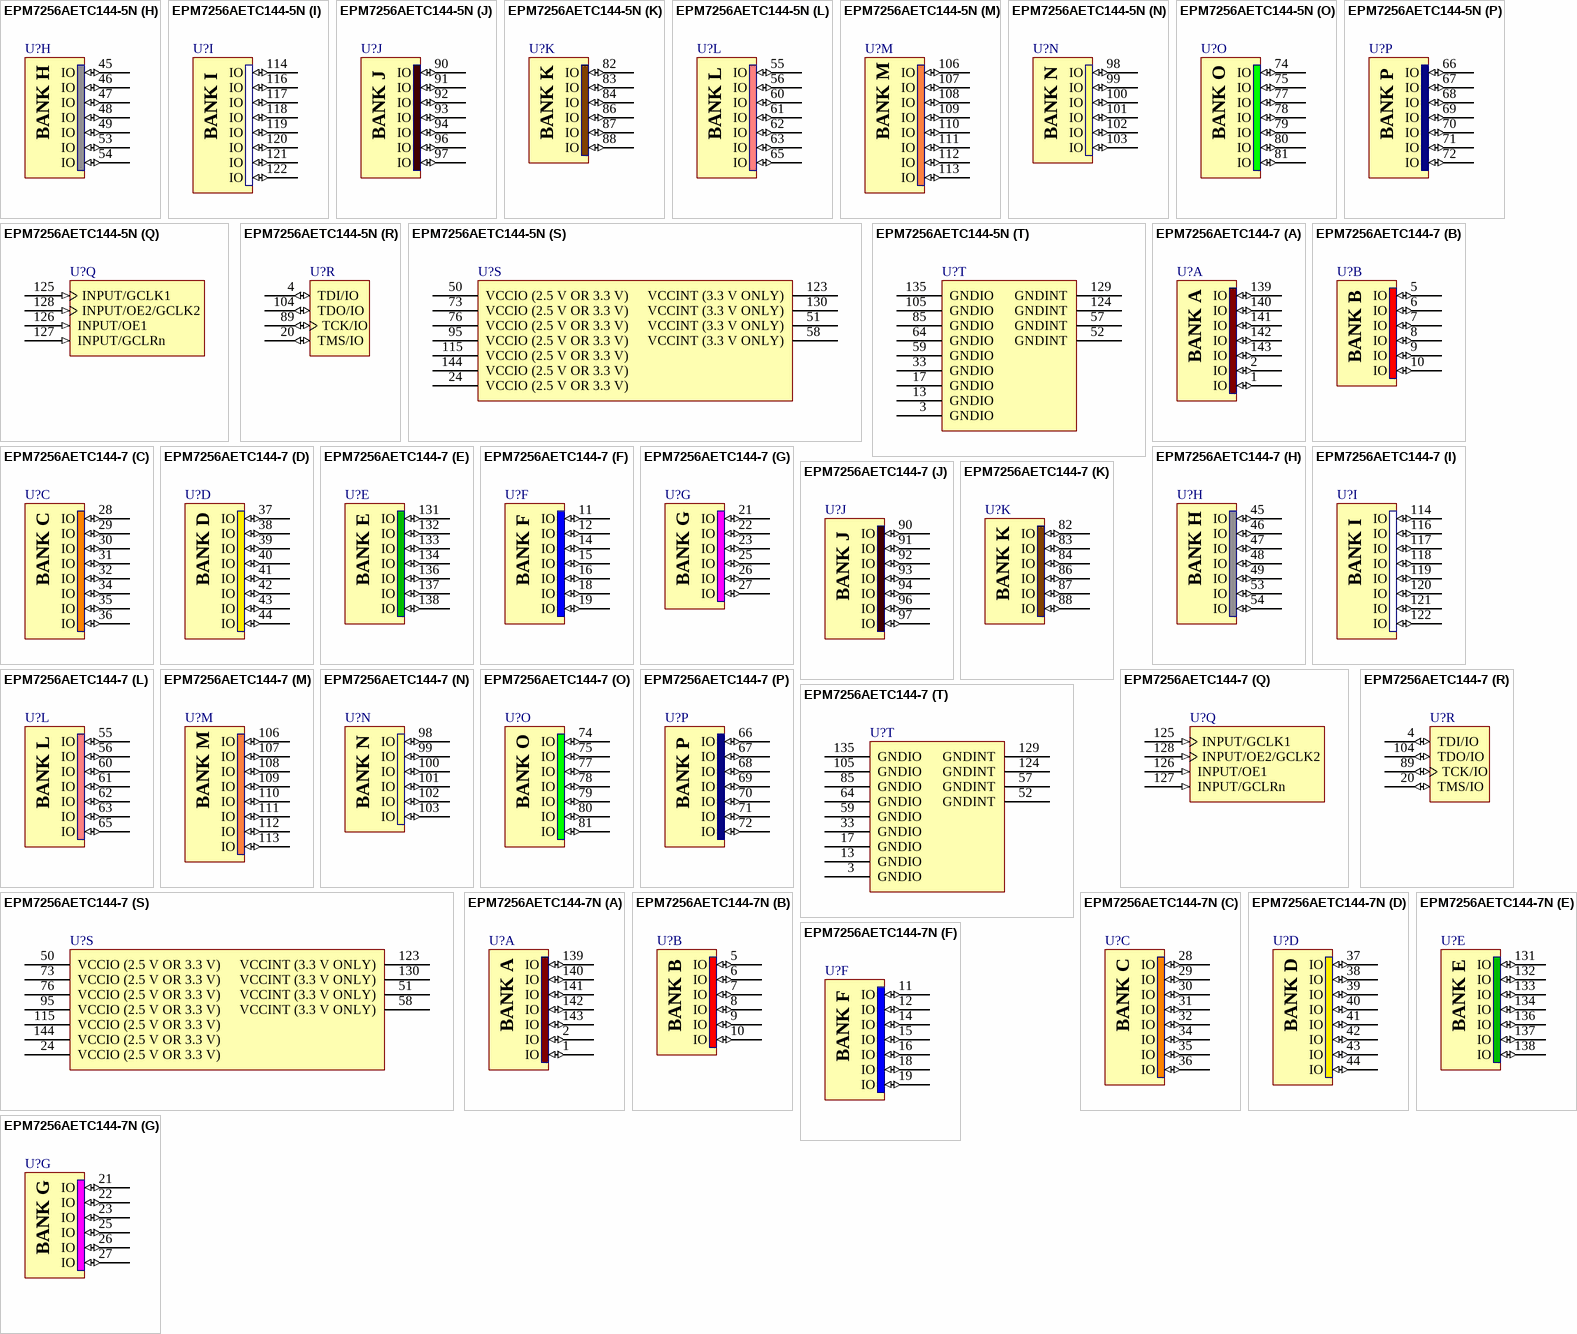
[diagram p75: symbols EPM7256AETC144-5N to EPM7256AETC144-7N]

## EPM7256AETC144-5N
designator U?
MAX 7000AE 3.3V CPLD, 256 Macrocells, 144-Pin TQFP, Speed Grade 5, Commercial Grade, Pb-Free; Published: 18-Aug-2005; LatestRevisionDate: 13-Apr-2006; LatestRevisionNote: IPC-7351 Footprint Added.; DatasheetVersion: ver4.5, Sep-2003; PackageVersion: ver15.4, Dec-2008; PackageReference: TQFP144; Publisher: Altium Limited; PackageDescription: 144-Pin Plastic Thin Quad Flat Pack (TQFP144) - Wire Bond; Supplier 1: Digi-Key; Supplier Part Number 1: 544-2588-ND; Code_JEDEC: MS-026-BFB; ComponentLink1Description: Manufacturer Link; ComponentLink1URL: http://www.altera.com/products/devices/max7k/m7k-index.html; ComponentLink2Description: Datasheet; ComponentLink2URL: http://www.altera.com/literature/ds/m7000a.pdf; ComponentLink3Description: Packaging Specification; ComponentLink3URL: http://www.altera.com/literature/ds/dspkg.pdf
footprint TQFP144_N (Thin QFP, 144-Leads, Body 20x20mm, Pitch 0.5mm, IPC Medium Density)
footprint TQFP144_L (Thin QFP, 144-Leads, Body 20x20mm, Pitch 0.5mm, IPC High Density)
footprint TQFP144_M (Thin QFP, 144-Leads, Body 20x20mm, Pitch 0.5mm, IPC Low Density)
3D model EPM7256AE-TQFP144 (144-Pin Plastic Thin Quad Flat Pack (TQFP144) - Wire Bond)
signal-integrity model max7kae (MAX 7000AE)
part A pins: 1 IO (io), 2 IO (io), 139 IO (io), 140 IO (io), 141 IO (io), 142 IO (io), 143 IO (io)
part B pins: 5 IO (io), 6 IO (io), 7 IO (io), 8 IO (io), 9 IO (io), 10 IO (io)
part C pins: 28 IO (io), 29 IO (io), 30 IO (io), 31 IO (io), 32 IO (io), 34 IO (io), 35 IO (io), 36 IO (io)
part D pins: 37 IO (io), 38 IO (io), 39 IO (io), 40 IO (io), 41 IO (io), 42 IO (io), 43 IO (io), 44 IO (io)
part E pins: 131 IO (io), 132 IO (io), 133 IO (io), 134 IO (io), 136 IO (io), 137 IO (io), 138 IO (io)
part F pins: 11 IO (io), 12 IO (io), 14 IO (io), 15 IO (io), 16 IO (io), 18 IO (io), 19 IO (io)
part G pins: 21 IO (io), 22 IO (io), 23 IO (io), 25 IO (io), 26 IO (io), 27 IO (io)
part H pins: 45 IO (io), 46 IO (io), 47 IO (io), 48 IO (io), 49 IO (io), 53 IO (io), 54 IO (io)
part I pins: 114 IO (io), 116 IO (io), 117 IO (io), 118 IO (io), 119 IO (io), 120 IO (io), 121 IO (io), 122 IO (io)
part J pins: 90 IO (io), 91 IO (io), 92 IO (io), 93 IO (io), 94 IO (io), 96 IO (io), 97 IO (io)
part K pins: 82 IO (io), 83 IO (io), 84 IO (io), 86 IO (io), 87 IO (io), 88 IO (io)
part L pins: 55 IO (io), 56 IO (io), 60 IO (io), 61 IO (io), 62 IO (io), 63 IO (io), 65 IO (io)
part M pins: 106 IO (io), 107 IO (io), 108 IO (io), 109 IO (io), 110 IO (io), 111 IO (io), 112 IO (io), 113 IO (io)
part N pins: 98 IO (io), 99 IO (io), 100 IO (io), 101 IO (io), 102 IO (io), 103 IO (io)
part O pins: 74 IO (io), 75 IO (io), 77 IO (io), 78 IO (io), 79 IO (io), 80 IO (io), 81 IO (io)
part P pins: 66 IO (io), 67 IO (io), 68 IO (io), 69 IO (io), 70 IO (io), 71 IO (io), 72 IO (io)
part Q pins: 125 INPUT/GCLK1 (in), 126 INPUT/OE1 (in), 127 INPUT/GCLRn (in), 128 INPUT/OE2/GCLK2 (in)
part R pins: 4 TDI/IO (io), 20 TMS/IO (io), 89 TCK/IO (io), 104 TDO/IO (io)
part S pins: 24 VCCIO (2.5 V OR 3.3 V) (power), 50 VCCIO (2.5 V OR 3.3 V) (power), 51 VCCINT (3.3 V ONLY) (power), 58 VCCINT (3.3 V ONLY) (power), 73 VCCIO (2.5 V OR 3.3 V) (power), 76 VCCIO (2.5 V OR 3.3 V) (power), 95 VCCIO (2.5 V OR 3.3 V) (power), 115 VCCIO (2.5 V OR 3.3 V) (power), 123 VCCINT (3.3 V ONLY) (power), 130 VCCINT (3.3 V ONLY) (power), 144 VCCIO (2.5 V OR 3.3 V) (power)
part T pins: 3 GNDIO (power), 13 GNDIO (power), 17 GNDIO (power), 33 GNDIO (power), 52 GNDINT (power), 57 GNDINT (power), 59 GNDIO (power), 64 GNDIO (power), 85 GNDIO (power), 105 GNDIO (power), 124 GNDINT (power), 129 GNDINT (power), 135 GNDIO (power)
part A text: BANK A
part B text: BANK B
part C text: BANK C
part D text: BANK D
part E text: BANK E
part F text: BANK F
part G text: BANK G
part H text: BANK H
part I text: BANK I
part J text: BANK J
part K text: BANK K
part L text: BANK L
part M text: BANK M
part N text: BANK N
part O text: BANK O
part P text: BANK P

## EPM7256AETC144-7
designator U?
MAX 7000AE 3.3V CPLD, 256 Macrocells, 144-Pin TQFP, Speed Grade 7, Commercial Grade; Published: 23-Sep-2002; LatestRevisionDate: 13-Apr-2006; LatestRevisionNote: IPC-7351 Footprint Added.; DatasheetVersion: ver4.5, Sep-2003; PackageVersion: ver15.4, Dec-2008; PackageReference: TQFP144; Publisher: Altium Limited; PackageDescription: 144-Pin Plastic Thin Quad Flat Pack (TQFP144) - Wire Bond; Supplier 1: Digi-Key; Supplier Part Number 1: 544-2353-ND; Code_JEDEC: MS-026-BFB; ComponentLink1Description: Manufacturer Link; ComponentLink1URL: http://www.altera.com/products/devices/max7k/m7k-index.html; ComponentLink2Description: Datasheet; ComponentLink2URL: http://www.altera.com/literature/ds/m7000a.pdf; ComponentLink3Description: Packaging Specification; ComponentLink3URL: http://www.altera.com/literature/ds/dspkg.pdf
footprint TQFP144_N (Thin QFP, 144-Leads, Body 20x20mm, Pitch 0.5mm, IPC Medium Density)
footprint TQFP144_L (Thin QFP, 144-Leads, Body 20x20mm, Pitch 0.5mm, IPC High Density)
footprint TQFP144_M (Thin QFP, 144-Leads, Body 20x20mm, Pitch 0.5mm, IPC Low Density)
3D model EPM7256AE-TQFP144 (144-Pin Plastic Thin Quad Flat Pack (TQFP144) - Wire Bond)
signal-integrity model max7kae (MAX 7000AE)
part A pins: 1 IO (io), 2 IO (io), 139 IO (io), 140 IO (io), 141 IO (io), 142 IO (io), 143 IO (io)
part B pins: 5 IO (io), 6 IO (io), 7 IO (io), 8 IO (io), 9 IO (io), 10 IO (io)
part C pins: 28 IO (io), 29 IO (io), 30 IO (io), 31 IO (io), 32 IO (io), 34 IO (io), 35 IO (io), 36 IO (io)
part D pins: 37 IO (io), 38 IO (io), 39 IO (io), 40 IO (io), 41 IO (io), 42 IO (io), 43 IO (io), 44 IO (io)
part E pins: 131 IO (io), 132 IO (io), 133 IO (io), 134 IO (io), 136 IO (io), 137 IO (io), 138 IO (io)
part F pins: 11 IO (io), 12 IO (io), 14 IO (io), 15 IO (io), 16 IO (io), 18 IO (io), 19 IO (io)
part G pins: 21 IO (io), 22 IO (io), 23 IO (io), 25 IO (io), 26 IO (io), 27 IO (io)
part H pins: 45 IO (io), 46 IO (io), 47 IO (io), 48 IO (io), 49 IO (io), 53 IO (io), 54 IO (io)
part I pins: 114 IO (io), 116 IO (io), 117 IO (io), 118 IO (io), 119 IO (io), 120 IO (io), 121 IO (io), 122 IO (io)
part J pins: 90 IO (io), 91 IO (io), 92 IO (io), 93 IO (io), 94 IO (io), 96 IO (io), 97 IO (io)
part K pins: 82 IO (io), 83 IO (io), 84 IO (io), 86 IO (io), 87 IO (io), 88 IO (io)
part L pins: 55 IO (io), 56 IO (io), 60 IO (io), 61 IO (io), 62 IO (io), 63 IO (io), 65 IO (io)
part M pins: 106 IO (io), 107 IO (io), 108 IO (io), 109 IO (io), 110 IO (io), 111 IO (io), 112 IO (io), 113 IO (io)
part N pins: 98 IO (io), 99 IO (io), 100 IO (io), 101 IO (io), 102 IO (io), 103 IO (io)
part O pins: 74 IO (io), 75 IO (io), 77 IO (io), 78 IO (io), 79 IO (io), 80 IO (io), 81 IO (io)
part P pins: 66 IO (io), 67 IO (io), 68 IO (io), 69 IO (io), 70 IO (io), 71 IO (io), 72 IO (io)
part Q pins: 125 INPUT/GCLK1 (in), 126 INPUT/OE1 (in), 127 INPUT/GCLRn (in), 128 INPUT/OE2/GCLK2 (in)
part R pins: 4 TDI/IO (io), 20 TMS/IO (io), 89 TCK/IO (io), 104 TDO/IO (io)
part S pins: 24 VCCIO (2.5 V OR 3.3 V) (power), 50 VCCIO (2.5 V OR 3.3 V) (power), 51 VCCINT (3.3 V ONLY) (power), 58 VCCINT (3.3 V ONLY) (power), 73 VCCIO (2.5 V OR 3.3 V) (power), 76 VCCIO (2.5 V OR 3.3 V) (power), 95 VCCIO (2.5 V OR 3.3 V) (power), 115 VCCIO (2.5 V OR 3.3 V) (power), 123 VCCINT (3.3 V ONLY) (power), 130 VCCINT (3.3 V ONLY) (power), 144 VCCIO (2.5 V OR 3.3 V) (power)
part T pins: 3 GNDIO (power), 13 GNDIO (power), 17 GNDIO (power), 33 GNDIO (power), 52 GNDINT (power), 57 GNDINT (power), 59 GNDIO (power), 64 GNDIO (power), 85 GNDIO (power), 105 GNDIO (power), 124 GNDINT (power), 129 GNDINT (power), 135 GNDIO (power)
part A text: BANK A
part B text: BANK B
part C text: BANK C
part D text: BANK D
part E text: BANK E
part F text: BANK F
part G text: BANK G
part H text: BANK H
part I text: BANK I
part J text: BANK J
part K text: BANK K
part L text: BANK L
part M text: BANK M
part N text: BANK N
part O text: BANK O
part P text: BANK P

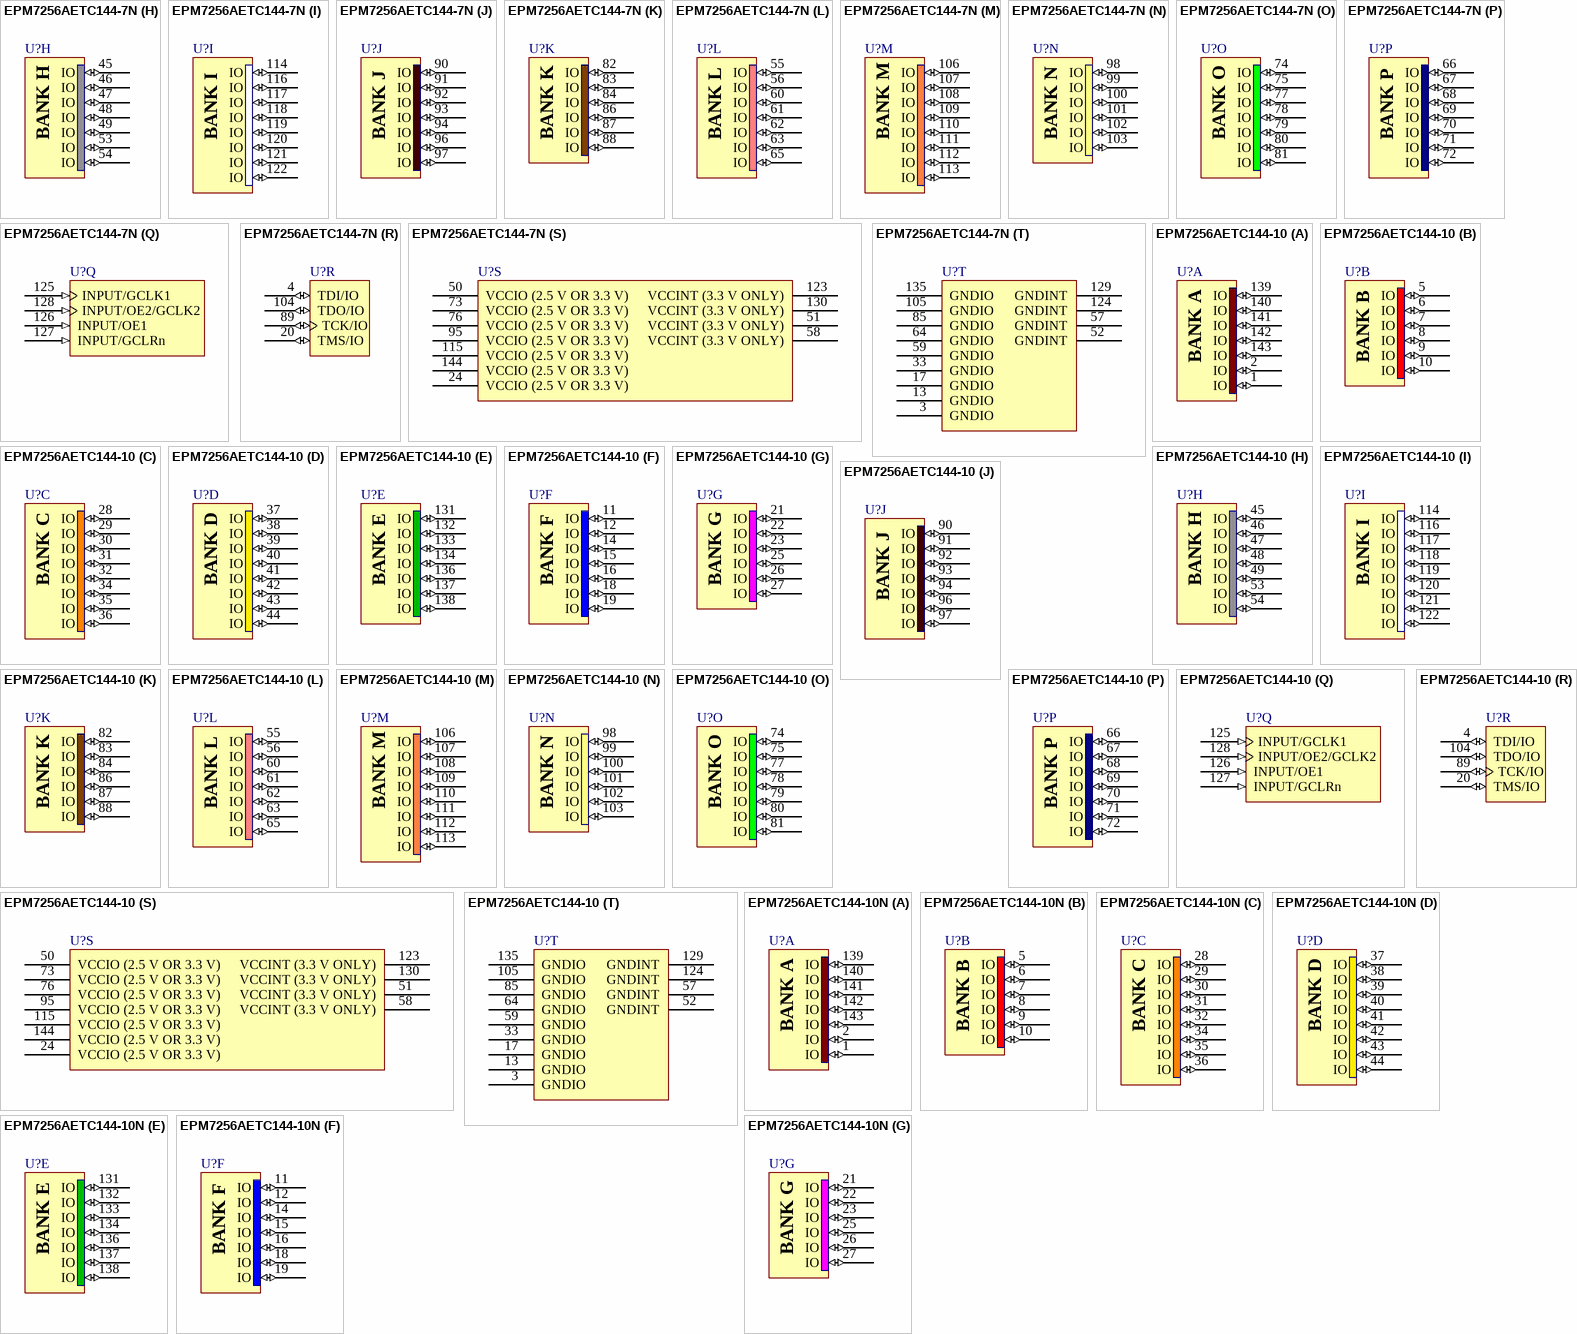
[diagram p76: symbols EPM7256AETC144-7N to EPM7256AETC144-10N]

## EPM7256AETC144-7N
designator U?
MAX 7000AE 3.3V CPLD, 256 Macrocells, 144-Pin TQFP, Speed Grade 7, Commercial Grade, Pb-Free; Published: 4-Mar-2005; LatestRevisionDate: 13-Apr-2006; LatestRevisionNote: IPC-7351 Footprint Added.; DatasheetVersion: ver4.5, Sep-2003; PackageVersion: ver15.4, Dec-2008; PackageReference: TQFP144; Publisher: Altium Limited; PackageDescription: 144-Pin Plastic Thin Quad Flat Pack (TQFP144) - Wire Bond; Supplier 1: Digi-Key; Supplier Part Number 1: 544-2354-ND; Supplier 2: Farnell; Supplier Part Number 2: 1549433; Code_JEDEC: MS-026-BFB; ComponentLink1Description: Manufacturer Link; ComponentLink1URL: http://www.altera.com/products/devices/max7k/m7k-index.html; ComponentLink2Description: Datasheet; ComponentLink2URL: http://www.altera.com/literature/ds/m7000a.pdf; ComponentLink3Description: Packaging Specification; ComponentLink3URL: http://www.altera.com/literature/ds/dspkg.pdf
footprint TQFP144_N (Thin QFP, 144-Leads, Body 20x20mm, Pitch 0.5mm, IPC Medium Density)
footprint TQFP144_L (Thin QFP, 144-Leads, Body 20x20mm, Pitch 0.5mm, IPC High Density)
footprint TQFP144_M (Thin QFP, 144-Leads, Body 20x20mm, Pitch 0.5mm, IPC Low Density)
3D model EPM7256AE-TQFP144 (144-Pin Plastic Thin Quad Flat Pack (TQFP144) - Wire Bond)
signal-integrity model max7kae (MAX 7000AE)
part A pins: 1 IO (io), 2 IO (io), 139 IO (io), 140 IO (io), 141 IO (io), 142 IO (io), 143 IO (io)
part B pins: 5 IO (io), 6 IO (io), 7 IO (io), 8 IO (io), 9 IO (io), 10 IO (io)
part C pins: 28 IO (io), 29 IO (io), 30 IO (io), 31 IO (io), 32 IO (io), 34 IO (io), 35 IO (io), 36 IO (io)
part D pins: 37 IO (io), 38 IO (io), 39 IO (io), 40 IO (io), 41 IO (io), 42 IO (io), 43 IO (io), 44 IO (io)
part E pins: 131 IO (io), 132 IO (io), 133 IO (io), 134 IO (io), 136 IO (io), 137 IO (io), 138 IO (io)
part F pins: 11 IO (io), 12 IO (io), 14 IO (io), 15 IO (io), 16 IO (io), 18 IO (io), 19 IO (io)
part G pins: 21 IO (io), 22 IO (io), 23 IO (io), 25 IO (io), 26 IO (io), 27 IO (io)
part H pins: 45 IO (io), 46 IO (io), 47 IO (io), 48 IO (io), 49 IO (io), 53 IO (io), 54 IO (io)
part I pins: 114 IO (io), 116 IO (io), 117 IO (io), 118 IO (io), 119 IO (io), 120 IO (io), 121 IO (io), 122 IO (io)
part J pins: 90 IO (io), 91 IO (io), 92 IO (io), 93 IO (io), 94 IO (io), 96 IO (io), 97 IO (io)
part K pins: 82 IO (io), 83 IO (io), 84 IO (io), 86 IO (io), 87 IO (io), 88 IO (io)
part L pins: 55 IO (io), 56 IO (io), 60 IO (io), 61 IO (io), 62 IO (io), 63 IO (io), 65 IO (io)
part M pins: 106 IO (io), 107 IO (io), 108 IO (io), 109 IO (io), 110 IO (io), 111 IO (io), 112 IO (io), 113 IO (io)
part N pins: 98 IO (io), 99 IO (io), 100 IO (io), 101 IO (io), 102 IO (io), 103 IO (io)
part O pins: 74 IO (io), 75 IO (io), 77 IO (io), 78 IO (io), 79 IO (io), 80 IO (io), 81 IO (io)
part P pins: 66 IO (io), 67 IO (io), 68 IO (io), 69 IO (io), 70 IO (io), 71 IO (io), 72 IO (io)
part Q pins: 125 INPUT/GCLK1 (in), 126 INPUT/OE1 (in), 127 INPUT/GCLRn (in), 128 INPUT/OE2/GCLK2 (in)
part R pins: 4 TDI/IO (io), 20 TMS/IO (io), 89 TCK/IO (io), 104 TDO/IO (io)
part S pins: 24 VCCIO (2.5 V OR 3.3 V) (power), 50 VCCIO (2.5 V OR 3.3 V) (power), 51 VCCINT (3.3 V ONLY) (power), 58 VCCINT (3.3 V ONLY) (power), 73 VCCIO (2.5 V OR 3.3 V) (power), 76 VCCIO (2.5 V OR 3.3 V) (power), 95 VCCIO (2.5 V OR 3.3 V) (power), 115 VCCIO (2.5 V OR 3.3 V) (power), 123 VCCINT (3.3 V ONLY) (power), 130 VCCINT (3.3 V ONLY) (power), 144 VCCIO (2.5 V OR 3.3 V) (power)
part T pins: 3 GNDIO (power), 13 GNDIO (power), 17 GNDIO (power), 33 GNDIO (power), 52 GNDINT (power), 57 GNDINT (power), 59 GNDIO (power), 64 GNDIO (power), 85 GNDIO (power), 105 GNDIO (power), 124 GNDINT (power), 129 GNDINT (power), 135 GNDIO (power)
part A text: BANK A
part B text: BANK B
part C text: BANK C
part D text: BANK D
part E text: BANK E
part F text: BANK F
part G text: BANK G
part H text: BANK H
part I text: BANK I
part J text: BANK J
part K text: BANK K
part L text: BANK L
part M text: BANK M
part N text: BANK N
part O text: BANK O
part P text: BANK P

## EPM7256AETC144-10
designator U?
MAX 7000AE 3.3V CPLD, 256 Macrocells, 144-Pin TQFP, Speed Grade 10, Commercial Grade; Published: 23-Sep-2002; LatestRevisionDate: 13-Apr-2006; LatestRevisionNote: IPC-7351 Footprint Added.; DatasheetVersion: ver4.5, Sep-2003; PackageVersion: ver15.4, Dec-2008; PackageReference: TQFP144; Publisher: Altium Limited; PackageDescription: 144-Pin Plastic Thin Quad Flat Pack (TQFP144) - Wire Bond; Supplier 1: Digi-Key; Supplier Part Number 1: 544-1218-ND; Code_JEDEC: MS-026-BFB; ComponentLink1Description: Manufacturer Link; ComponentLink1URL: http://www.altera.com/products/devices/max7k/m7k-index.html; ComponentLink2Description: Datasheet; ComponentLink2URL: http://www.altera.com/literature/ds/m7000a.pdf; ComponentLink3Description: Packaging Specification; ComponentLink3URL: http://www.altera.com/literature/ds/dspkg.pdf
footprint TQFP144_N (Thin QFP, 144-Leads, Body 20x20mm, Pitch 0.5mm, IPC Medium Density)
footprint TQFP144_L (Thin QFP, 144-Leads, Body 20x20mm, Pitch 0.5mm, IPC High Density)
footprint TQFP144_M (Thin QFP, 144-Leads, Body 20x20mm, Pitch 0.5mm, IPC Low Density)
3D model EPM7256AE-TQFP144 (144-Pin Plastic Thin Quad Flat Pack (TQFP144) - Wire Bond)
signal-integrity model max7kae (MAX 7000AE)
part A pins: 1 IO (io), 2 IO (io), 139 IO (io), 140 IO (io), 141 IO (io), 142 IO (io), 143 IO (io)
part B pins: 5 IO (io), 6 IO (io), 7 IO (io), 8 IO (io), 9 IO (io), 10 IO (io)
part C pins: 28 IO (io), 29 IO (io), 30 IO (io), 31 IO (io), 32 IO (io), 34 IO (io), 35 IO (io), 36 IO (io)
part D pins: 37 IO (io), 38 IO (io), 39 IO (io), 40 IO (io), 41 IO (io), 42 IO (io), 43 IO (io), 44 IO (io)
part E pins: 131 IO (io), 132 IO (io), 133 IO (io), 134 IO (io), 136 IO (io), 137 IO (io), 138 IO (io)
part F pins: 11 IO (io), 12 IO (io), 14 IO (io), 15 IO (io), 16 IO (io), 18 IO (io), 19 IO (io)
part G pins: 21 IO (io), 22 IO (io), 23 IO (io), 25 IO (io), 26 IO (io), 27 IO (io)
part H pins: 45 IO (io), 46 IO (io), 47 IO (io), 48 IO (io), 49 IO (io), 53 IO (io), 54 IO (io)
part I pins: 114 IO (io), 116 IO (io), 117 IO (io), 118 IO (io), 119 IO (io), 120 IO (io), 121 IO (io), 122 IO (io)
part J pins: 90 IO (io), 91 IO (io), 92 IO (io), 93 IO (io), 94 IO (io), 96 IO (io), 97 IO (io)
part K pins: 82 IO (io), 83 IO (io), 84 IO (io), 86 IO (io), 87 IO (io), 88 IO (io)
part L pins: 55 IO (io), 56 IO (io), 60 IO (io), 61 IO (io), 62 IO (io), 63 IO (io), 65 IO (io)
part M pins: 106 IO (io), 107 IO (io), 108 IO (io), 109 IO (io), 110 IO (io), 111 IO (io), 112 IO (io), 113 IO (io)
part N pins: 98 IO (io), 99 IO (io), 100 IO (io), 101 IO (io), 102 IO (io), 103 IO (io)
part O pins: 74 IO (io), 75 IO (io), 77 IO (io), 78 IO (io), 79 IO (io), 80 IO (io), 81 IO (io)
part P pins: 66 IO (io), 67 IO (io), 68 IO (io), 69 IO (io), 70 IO (io), 71 IO (io), 72 IO (io)
part Q pins: 125 INPUT/GCLK1 (in), 126 INPUT/OE1 (in), 127 INPUT/GCLRn (in), 128 INPUT/OE2/GCLK2 (in)
part R pins: 4 TDI/IO (io), 20 TMS/IO (io), 89 TCK/IO (io), 104 TDO/IO (io)
part S pins: 24 VCCIO (2.5 V OR 3.3 V) (power), 50 VCCIO (2.5 V OR 3.3 V) (power), 51 VCCINT (3.3 V ONLY) (power), 58 VCCINT (3.3 V ONLY) (power), 73 VCCIO (2.5 V OR 3.3 V) (power), 76 VCCIO (2.5 V OR 3.3 V) (power), 95 VCCIO (2.5 V OR 3.3 V) (power), 115 VCCIO (2.5 V OR 3.3 V) (power), 123 VCCINT (3.3 V ONLY) (power), 130 VCCINT (3.3 V ONLY) (power), 144 VCCIO (2.5 V OR 3.3 V) (power)
part T pins: 3 GNDIO (power), 13 GNDIO (power), 17 GNDIO (power), 33 GNDIO (power), 52 GNDINT (power), 57 GNDINT (power), 59 GNDIO (power), 64 GNDIO (power), 85 GNDIO (power), 105 GNDIO (power), 124 GNDINT (power), 129 GNDINT (power), 135 GNDIO (power)
part A text: BANK A
part B text: BANK B
part C text: BANK C
part D text: BANK D
part E text: BANK E
part F text: BANK F
part G text: BANK G
part H text: BANK H
part I text: BANK I
part J text: BANK J
part K text: BANK K
part L text: BANK L
part M text: BANK M
part N text: BANK N
part O text: BANK O
part P text: BANK P

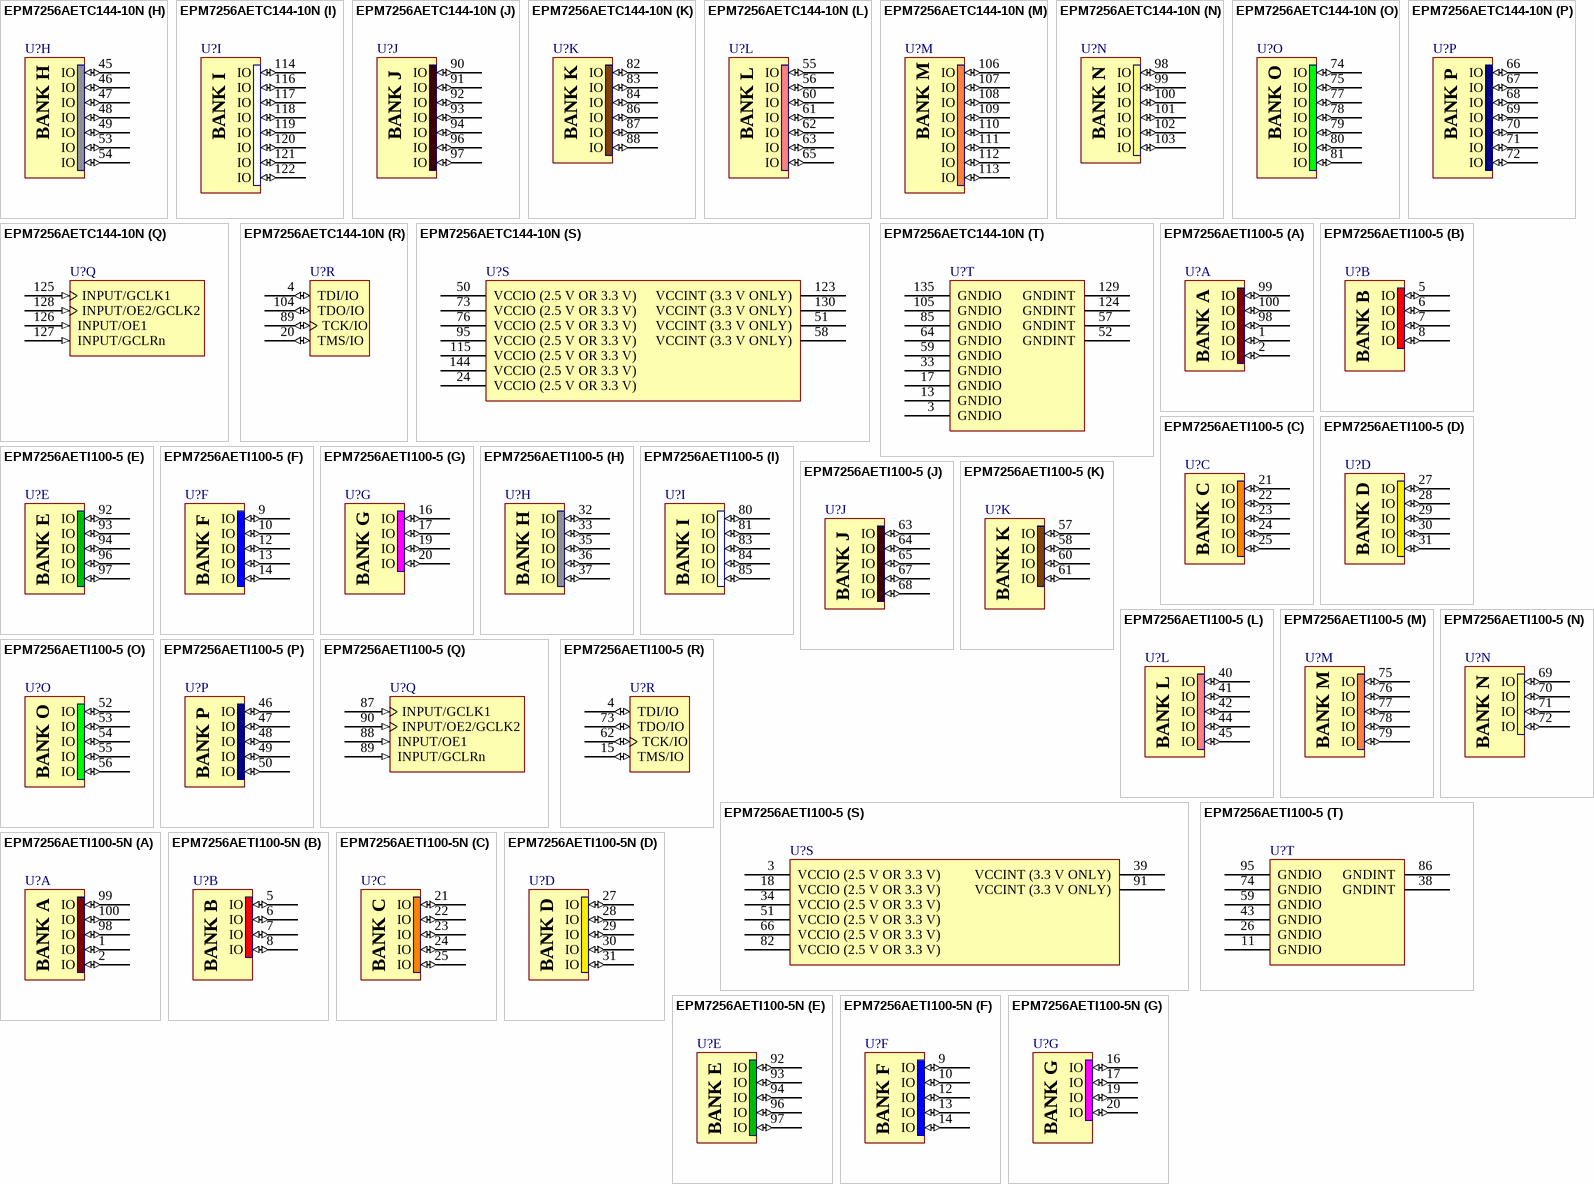
[diagram p77: symbols EPM7256AETC144-10N to EPM7256AETI100-5N]

## EPM7256AETC144-10N
designator U?
MAX 7000AE 3.3V CPLD, 256 Macrocells, 144-Pin TQFP, Speed Grade 10, Commercial Grade, Pb-Free; Published: 4-Mar-2005; LatestRevisionDate: 13-Apr-2006; LatestRevisionNote: IPC-7351 Footprint Added.; DatasheetVersion: ver4.5, Sep-2003; PackageVersion: ver15.4, Dec-2008; PackageReference: TQFP144; Publisher: Altium Limited; PackageDescription: 144-Pin Plastic Thin Quad Flat Pack (TQFP144) - Wire Bond; Supplier 1: Digi-Key; Supplier Part Number 1: 544-2059-ND; Code_JEDEC: MS-026-BFB; ComponentLink1Description: Manufacturer Link; ComponentLink1URL: http://www.altera.com/products/devices/max7k/m7k-index.html; ComponentLink2Description: Datasheet; ComponentLink2URL: http://www.altera.com/literature/ds/m7000a.pdf; ComponentLink3Description: Packaging Specification; ComponentLink3URL: http://www.altera.com/literature/ds/dspkg.pdf
footprint TQFP144_N (Thin QFP, 144-Leads, Body 20x20mm, Pitch 0.5mm, IPC Medium Density)
footprint TQFP144_L (Thin QFP, 144-Leads, Body 20x20mm, Pitch 0.5mm, IPC High Density)
footprint TQFP144_M (Thin QFP, 144-Leads, Body 20x20mm, Pitch 0.5mm, IPC Low Density)
3D model EPM7256AE-TQFP144 (144-Pin Plastic Thin Quad Flat Pack (TQFP144) - Wire Bond)
signal-integrity model max7kae (MAX 7000AE)
part A pins: 1 IO (io), 2 IO (io), 139 IO (io), 140 IO (io), 141 IO (io), 142 IO (io), 143 IO (io)
part B pins: 5 IO (io), 6 IO (io), 7 IO (io), 8 IO (io), 9 IO (io), 10 IO (io)
part C pins: 28 IO (io), 29 IO (io), 30 IO (io), 31 IO (io), 32 IO (io), 34 IO (io), 35 IO (io), 36 IO (io)
part D pins: 37 IO (io), 38 IO (io), 39 IO (io), 40 IO (io), 41 IO (io), 42 IO (io), 43 IO (io), 44 IO (io)
part E pins: 131 IO (io), 132 IO (io), 133 IO (io), 134 IO (io), 136 IO (io), 137 IO (io), 138 IO (io)
part F pins: 11 IO (io), 12 IO (io), 14 IO (io), 15 IO (io), 16 IO (io), 18 IO (io), 19 IO (io)
part G pins: 21 IO (io), 22 IO (io), 23 IO (io), 25 IO (io), 26 IO (io), 27 IO (io)
part H pins: 45 IO (io), 46 IO (io), 47 IO (io), 48 IO (io), 49 IO (io), 53 IO (io), 54 IO (io)
part I pins: 114 IO (io), 116 IO (io), 117 IO (io), 118 IO (io), 119 IO (io), 120 IO (io), 121 IO (io), 122 IO (io)
part J pins: 90 IO (io), 91 IO (io), 92 IO (io), 93 IO (io), 94 IO (io), 96 IO (io), 97 IO (io)
part K pins: 82 IO (io), 83 IO (io), 84 IO (io), 86 IO (io), 87 IO (io), 88 IO (io)
part L pins: 55 IO (io), 56 IO (io), 60 IO (io), 61 IO (io), 62 IO (io), 63 IO (io), 65 IO (io)
part M pins: 106 IO (io), 107 IO (io), 108 IO (io), 109 IO (io), 110 IO (io), 111 IO (io), 112 IO (io), 113 IO (io)
part N pins: 98 IO (io), 99 IO (io), 100 IO (io), 101 IO (io), 102 IO (io), 103 IO (io)
part O pins: 74 IO (io), 75 IO (io), 77 IO (io), 78 IO (io), 79 IO (io), 80 IO (io), 81 IO (io)
part P pins: 66 IO (io), 67 IO (io), 68 IO (io), 69 IO (io), 70 IO (io), 71 IO (io), 72 IO (io)
part Q pins: 125 INPUT/GCLK1 (in), 126 INPUT/OE1 (in), 127 INPUT/GCLRn (in), 128 INPUT/OE2/GCLK2 (in)
part R pins: 4 TDI/IO (io), 20 TMS/IO (io), 89 TCK/IO (io), 104 TDO/IO (io)
part S pins: 24 VCCIO (2.5 V OR 3.3 V) (power), 50 VCCIO (2.5 V OR 3.3 V) (power), 51 VCCINT (3.3 V ONLY) (power), 58 VCCINT (3.3 V ONLY) (power), 73 VCCIO (2.5 V OR 3.3 V) (power), 76 VCCIO (2.5 V OR 3.3 V) (power), 95 VCCIO (2.5 V OR 3.3 V) (power), 115 VCCIO (2.5 V OR 3.3 V) (power), 123 VCCINT (3.3 V ONLY) (power), 130 VCCINT (3.3 V ONLY) (power), 144 VCCIO (2.5 V OR 3.3 V) (power)
part T pins: 3 GNDIO (power), 13 GNDIO (power), 17 GNDIO (power), 33 GNDIO (power), 52 GNDINT (power), 57 GNDINT (power), 59 GNDIO (power), 64 GNDIO (power), 85 GNDIO (power), 105 GNDIO (power), 124 GNDINT (power), 129 GNDINT (power), 135 GNDIO (power)
part A text: BANK A
part B text: BANK B
part C text: BANK C
part D text: BANK D
part E text: BANK E
part F text: BANK F
part G text: BANK G
part H text: BANK H
part I text: BANK I
part J text: BANK J
part K text: BANK K
part L text: BANK L
part M text: BANK M
part N text: BANK N
part O text: BANK O
part P text: BANK P

## EPM7256AETI100-5
designator U?
MAX 7000AE 3.3V CPLD, 256 Macrocells, 100-Pin TQFP, Speed Grade 5, Industrial Grade; Published: 17-Sep-2003; LatestRevisionDate: 13-Apr-2006; LatestRevisionNote: IPC-7351 Footprint Added.; DatasheetVersion: ver4.5, Sep-2003; PackageVersion: ver15.1, May-2008; PackageReference: TQFP100; Publisher: Altium Limited; PackageDescription: 100-Pin Plastic Thin Quad Flat Pack (TQFP100) - Wire Bond; Code_JEDEC: MS-026-AED; ComponentLink1Description: Manufacturer Link; ComponentLink1URL: http://www.altera.com/products/devices/max7k/m7k-index.html; ComponentLink2Description: Datasheet; ComponentLink2URL: http://www.altera.com/literature/ds/m7000a.pdf; ComponentLink3Description: Packaging Specification; ComponentLink3URL: http://www.altera.com/literature/ds/dspkg.pdf
footprint TQFP100_N (Thin QFP, 100-Leads, Body 14x14mm, Pitch 0.5mm, IPC Medium Density)
footprint TQFP100_L (Thin QFP, 100-Leads, Body 14x14mm, Pitch 0.5mm, IPC High Density)
footprint TQFP100_M (Thin QFP, 100-Leads, Body 14x14mm, Pitch 0.5mm, IPC Low Density)
3D model EPM7256AE-TQFP100 (100-Pin Plastic Thin Quad Flat Pack (TQFP100) - Wire Bond)
signal-integrity model max7kae (MAX 7000AE)
part A pins: 1 IO (io), 2 IO (io), 98 IO (io), 99 IO (io), 100 IO (io)
part B pins: 5 IO (io), 6 IO (io), 7 IO (io), 8 IO (io)
part C pins: 21 IO (io), 22 IO (io), 23 IO (io), 24 IO (io), 25 IO (io)
part D pins: 27 IO (io), 28 IO (io), 29 IO (io), 30 IO (io), 31 IO (io)
part E pins: 92 IO (io), 93 IO (io), 94 IO (io), 96 IO (io), 97 IO (io)
part F pins: 9 IO (io), 10 IO (io), 12 IO (io), 13 IO (io), 14 IO (io)
part G pins: 16 IO (io), 17 IO (io), 19 IO (io), 20 IO (io)
part H pins: 32 IO (io), 33 IO (io), 35 IO (io), 36 IO (io), 37 IO (io)
part I pins: 80 IO (io), 81 IO (io), 83 IO (io), 84 IO (io), 85 IO (io)
part J pins: 63 IO (io), 64 IO (io), 65 IO (io), 67 IO (io), 68 IO (io)
part K pins: 57 IO (io), 58 IO (io), 60 IO (io), 61 IO (io)
part L pins: 40 IO (io), 41 IO (io), 42 IO (io), 44 IO (io), 45 IO (io)
part M pins: 75 IO (io), 76 IO (io), 77 IO (io), 78 IO (io), 79 IO (io)
part N pins: 69 IO (io), 70 IO (io), 71 IO (io), 72 IO (io)
part O pins: 52 IO (io), 53 IO (io), 54 IO (io), 55 IO (io), 56 IO (io)
part P pins: 46 IO (io), 47 IO (io), 48 IO (io), 49 IO (io), 50 IO (io)
part Q pins: 87 INPUT/GCLK1 (in), 88 INPUT/OE1 (in), 89 INPUT/GCLRn (in), 90 INPUT/OE2/GCLK2 (in)
part R pins: 4 TDI/IO (io), 15 TMS/IO (io), 62 TCK/IO (io), 73 TDO/IO (io)
part S pins: 3 VCCIO (2.5 V OR 3.3 V) (power), 18 VCCIO (2.5 V OR 3.3 V) (power), 34 VCCIO (2.5 V OR 3.3 V) (power), 39 VCCINT (3.3 V ONLY) (power), 51 VCCIO (2.5 V OR 3.3 V) (power), 66 VCCIO (2.5 V OR 3.3 V) (power), 82 VCCIO (2.5 V OR 3.3 V) (power), 91 VCCINT (3.3 V ONLY) (power)
part T pins: 11 GNDIO (power), 26 GNDIO (power), 38 GNDINT (power), 43 GNDIO (power), 59 GNDIO (power), 74 GNDIO (power), 86 GNDINT (power), 95 GNDIO (power)
part A text: BANK A
part B text: BANK B
part C text: BANK C
part D text: BANK D
part E text: BANK E
part F text: BANK F
part G text: BANK G
part H text: BANK H
part I text: BANK I
part J text: BANK J
part K text: BANK K
part L text: BANK L
part M text: BANK M
part N text: BANK N
part O text: BANK O
part P text: BANK P

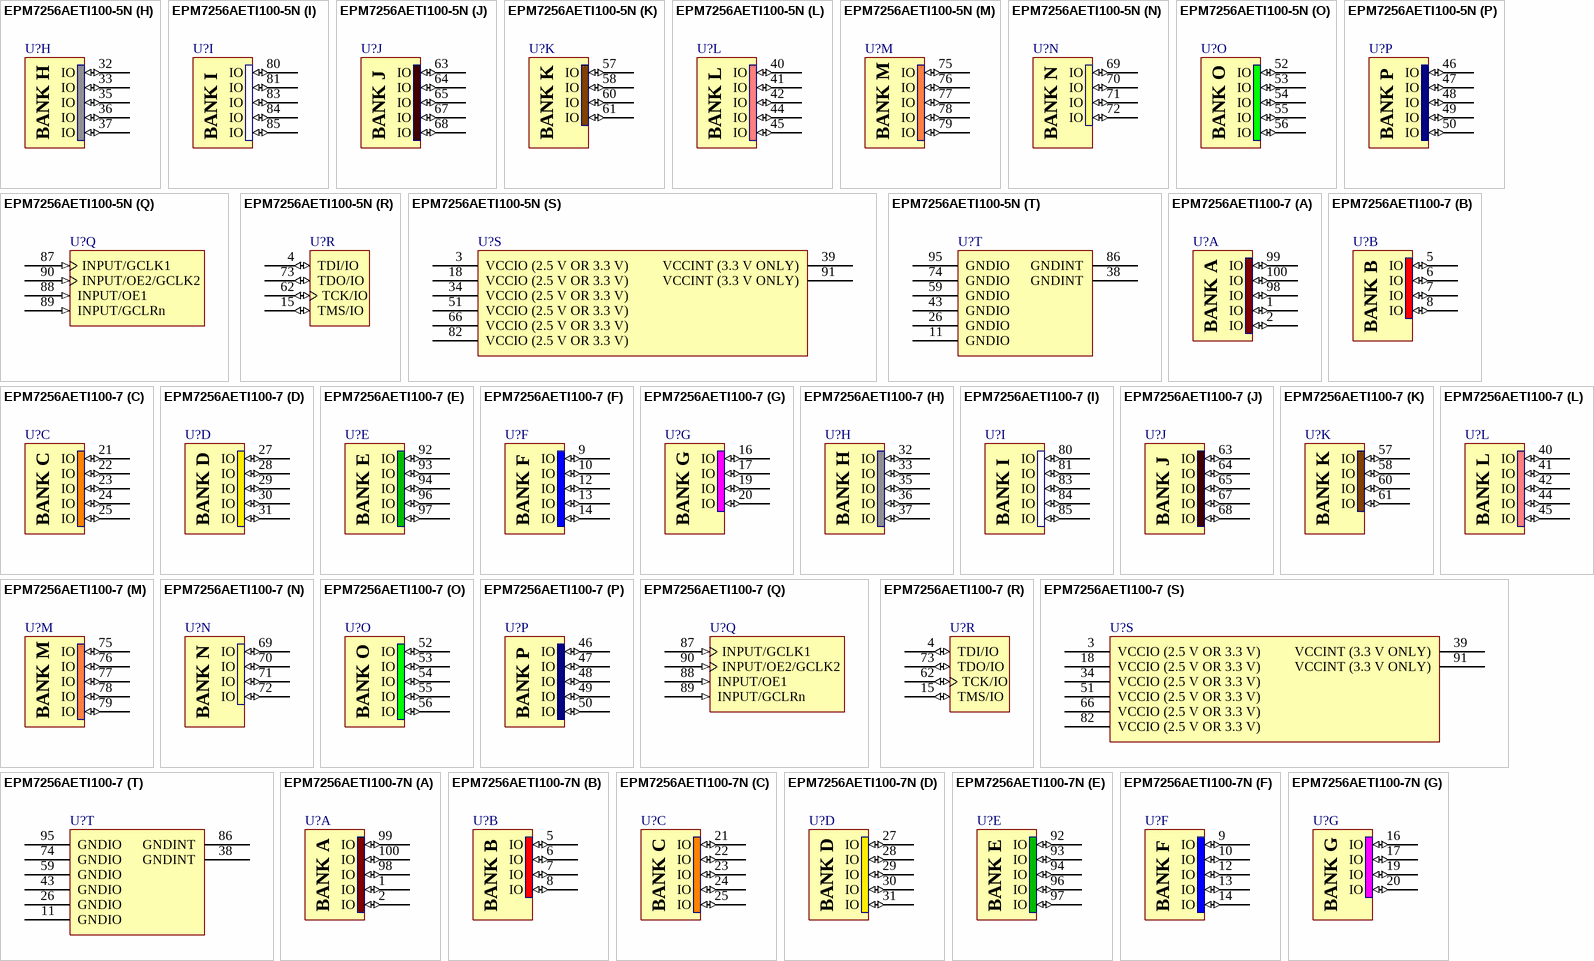
[diagram p78: symbols EPM7256AETI100-5N to EPM7256AETI100-7N]

## EPM7256AETI100-5N
designator U?
MAX 7000AE 3.3V CPLD, 256 Macrocells, 100-Pin TQFP, Speed Grade 5, Industrial Grade, Pb-Free; Published: 18-Aug-2005; LatestRevisionDate: 13-Apr-2006; LatestRevisionNote: IPC-7351 Footprint Added.; DatasheetVersion: ver4.5, Sep-2003; PackageVersion: ver15.1, May-2008; PackageReference: TQFP100; Publisher: Altium Limited; PackageDescription: 100-Pin Plastic Thin Quad Flat Pack (TQFP100) - Wire Bond; Code_JEDEC: MS-026-AED; ComponentLink1Description: Manufacturer Link; ComponentLink1URL: http://www.altera.com/products/devices/max7k/m7k-index.html; ComponentLink2Description: Datasheet; ComponentLink2URL: http://www.altera.com/literature/ds/m7000a.pdf; ComponentLink3Description: Packaging Specification; ComponentLink3URL: http://www.altera.com/literature/ds/dspkg.pdf
footprint TQFP100_N (Thin QFP, 100-Leads, Body 14x14mm, Pitch 0.5mm, IPC Medium Density)
footprint TQFP100_L (Thin QFP, 100-Leads, Body 14x14mm, Pitch 0.5mm, IPC High Density)
footprint TQFP100_M (Thin QFP, 100-Leads, Body 14x14mm, Pitch 0.5mm, IPC Low Density)
3D model EPM7256AE-TQFP100 (100-Pin Plastic Thin Quad Flat Pack (TQFP100) - Wire Bond)
signal-integrity model max7kae (MAX 7000AE)
part A pins: 1 IO (io), 2 IO (io), 98 IO (io), 99 IO (io), 100 IO (io)
part B pins: 5 IO (io), 6 IO (io), 7 IO (io), 8 IO (io)
part C pins: 21 IO (io), 22 IO (io), 23 IO (io), 24 IO (io), 25 IO (io)
part D pins: 27 IO (io), 28 IO (io), 29 IO (io), 30 IO (io), 31 IO (io)
part E pins: 92 IO (io), 93 IO (io), 94 IO (io), 96 IO (io), 97 IO (io)
part F pins: 9 IO (io), 10 IO (io), 12 IO (io), 13 IO (io), 14 IO (io)
part G pins: 16 IO (io), 17 IO (io), 19 IO (io), 20 IO (io)
part H pins: 32 IO (io), 33 IO (io), 35 IO (io), 36 IO (io), 37 IO (io)
part I pins: 80 IO (io), 81 IO (io), 83 IO (io), 84 IO (io), 85 IO (io)
part J pins: 63 IO (io), 64 IO (io), 65 IO (io), 67 IO (io), 68 IO (io)
part K pins: 57 IO (io), 58 IO (io), 60 IO (io), 61 IO (io)
part L pins: 40 IO (io), 41 IO (io), 42 IO (io), 44 IO (io), 45 IO (io)
part M pins: 75 IO (io), 76 IO (io), 77 IO (io), 78 IO (io), 79 IO (io)
part N pins: 69 IO (io), 70 IO (io), 71 IO (io), 72 IO (io)
part O pins: 52 IO (io), 53 IO (io), 54 IO (io), 55 IO (io), 56 IO (io)
part P pins: 46 IO (io), 47 IO (io), 48 IO (io), 49 IO (io), 50 IO (io)
part Q pins: 87 INPUT/GCLK1 (in), 88 INPUT/OE1 (in), 89 INPUT/GCLRn (in), 90 INPUT/OE2/GCLK2 (in)
part R pins: 4 TDI/IO (io), 15 TMS/IO (io), 62 TCK/IO (io), 73 TDO/IO (io)
part S pins: 3 VCCIO (2.5 V OR 3.3 V) (power), 18 VCCIO (2.5 V OR 3.3 V) (power), 34 VCCIO (2.5 V OR 3.3 V) (power), 39 VCCINT (3.3 V ONLY) (power), 51 VCCIO (2.5 V OR 3.3 V) (power), 66 VCCIO (2.5 V OR 3.3 V) (power), 82 VCCIO (2.5 V OR 3.3 V) (power), 91 VCCINT (3.3 V ONLY) (power)
part T pins: 11 GNDIO (power), 26 GNDIO (power), 38 GNDINT (power), 43 GNDIO (power), 59 GNDIO (power), 74 GNDIO (power), 86 GNDINT (power), 95 GNDIO (power)
part A text: BANK A
part B text: BANK B
part C text: BANK C
part D text: BANK D
part E text: BANK E
part F text: BANK F
part G text: BANK G
part H text: BANK H
part I text: BANK I
part J text: BANK J
part K text: BANK K
part L text: BANK L
part M text: BANK M
part N text: BANK N
part O text: BANK O
part P text: BANK P

## EPM7256AETI100-7
designator U?
MAX 7000AE 3.3V CPLD, 256 Macrocells, 100-Pin TQFP, Speed Grade 7, Industrial Grade; Published: 23-Sep-2002; LatestRevisionDate: 13-Apr-2006; LatestRevisionNote: IPC-7351 Footprint Added.; DatasheetVersion: ver4.5, Sep-2003; PackageVersion: ver15.1, May-2008; PackageReference: TQFP100; Publisher: Altium Limited; PackageDescription: 100-Pin Plastic Thin Quad Flat Pack (TQFP100) - Wire Bond; Supplier 1: Digi-Key; Supplier Part Number 1: 544-2061-ND; Code_JEDEC: MS-026-AED; ComponentLink1Description: Manufacturer Link; ComponentLink1URL: http://www.altera.com/products/devices/max7k/m7k-index.html; ComponentLink2Description: Datasheet; ComponentLink2URL: http://www.altera.com/literature/ds/m7000a.pdf; ComponentLink3Description: Packaging Specification; ComponentLink3URL: http://www.altera.com/literature/ds/dspkg.pdf
footprint TQFP100_N (Thin QFP, 100-Leads, Body 14x14mm, Pitch 0.5mm, IPC Medium Density)
footprint TQFP100_L (Thin QFP, 100-Leads, Body 14x14mm, Pitch 0.5mm, IPC High Density)
footprint TQFP100_M (Thin QFP, 100-Leads, Body 14x14mm, Pitch 0.5mm, IPC Low Density)
3D model EPM7256AE-TQFP100 (100-Pin Plastic Thin Quad Flat Pack (TQFP100) - Wire Bond)
signal-integrity model max7kae (MAX 7000AE)
part A pins: 1 IO (io), 2 IO (io), 98 IO (io), 99 IO (io), 100 IO (io)
part B pins: 5 IO (io), 6 IO (io), 7 IO (io), 8 IO (io)
part C pins: 21 IO (io), 22 IO (io), 23 IO (io), 24 IO (io), 25 IO (io)
part D pins: 27 IO (io), 28 IO (io), 29 IO (io), 30 IO (io), 31 IO (io)
part E pins: 92 IO (io), 93 IO (io), 94 IO (io), 96 IO (io), 97 IO (io)
part F pins: 9 IO (io), 10 IO (io), 12 IO (io), 13 IO (io), 14 IO (io)
part G pins: 16 IO (io), 17 IO (io), 19 IO (io), 20 IO (io)
part H pins: 32 IO (io), 33 IO (io), 35 IO (io), 36 IO (io), 37 IO (io)
part I pins: 80 IO (io), 81 IO (io), 83 IO (io), 84 IO (io), 85 IO (io)
part J pins: 63 IO (io), 64 IO (io), 65 IO (io), 67 IO (io), 68 IO (io)
part K pins: 57 IO (io), 58 IO (io), 60 IO (io), 61 IO (io)
part L pins: 40 IO (io), 41 IO (io), 42 IO (io), 44 IO (io), 45 IO (io)
part M pins: 75 IO (io), 76 IO (io), 77 IO (io), 78 IO (io), 79 IO (io)
part N pins: 69 IO (io), 70 IO (io), 71 IO (io), 72 IO (io)
part O pins: 52 IO (io), 53 IO (io), 54 IO (io), 55 IO (io), 56 IO (io)
part P pins: 46 IO (io), 47 IO (io), 48 IO (io), 49 IO (io), 50 IO (io)
part Q pins: 87 INPUT/GCLK1 (in), 88 INPUT/OE1 (in), 89 INPUT/GCLRn (in), 90 INPUT/OE2/GCLK2 (in)
part R pins: 4 TDI/IO (io), 15 TMS/IO (io), 62 TCK/IO (io), 73 TDO/IO (io)
part S pins: 3 VCCIO (2.5 V OR 3.3 V) (power), 18 VCCIO (2.5 V OR 3.3 V) (power), 34 VCCIO (2.5 V OR 3.3 V) (power), 39 VCCINT (3.3 V ONLY) (power), 51 VCCIO (2.5 V OR 3.3 V) (power), 66 VCCIO (2.5 V OR 3.3 V) (power), 82 VCCIO (2.5 V OR 3.3 V) (power), 91 VCCINT (3.3 V ONLY) (power)
part T pins: 11 GNDIO (power), 26 GNDIO (power), 38 GNDINT (power), 43 GNDIO (power), 59 GNDIO (power), 74 GNDIO (power), 86 GNDINT (power), 95 GNDIO (power)
part A text: BANK A
part B text: BANK B
part C text: BANK C
part D text: BANK D
part E text: BANK E
part F text: BANK F
part G text: BANK G
part H text: BANK H
part I text: BANK I
part J text: BANK J
part K text: BANK K
part L text: BANK L
part M text: BANK M
part N text: BANK N
part O text: BANK O
part P text: BANK P

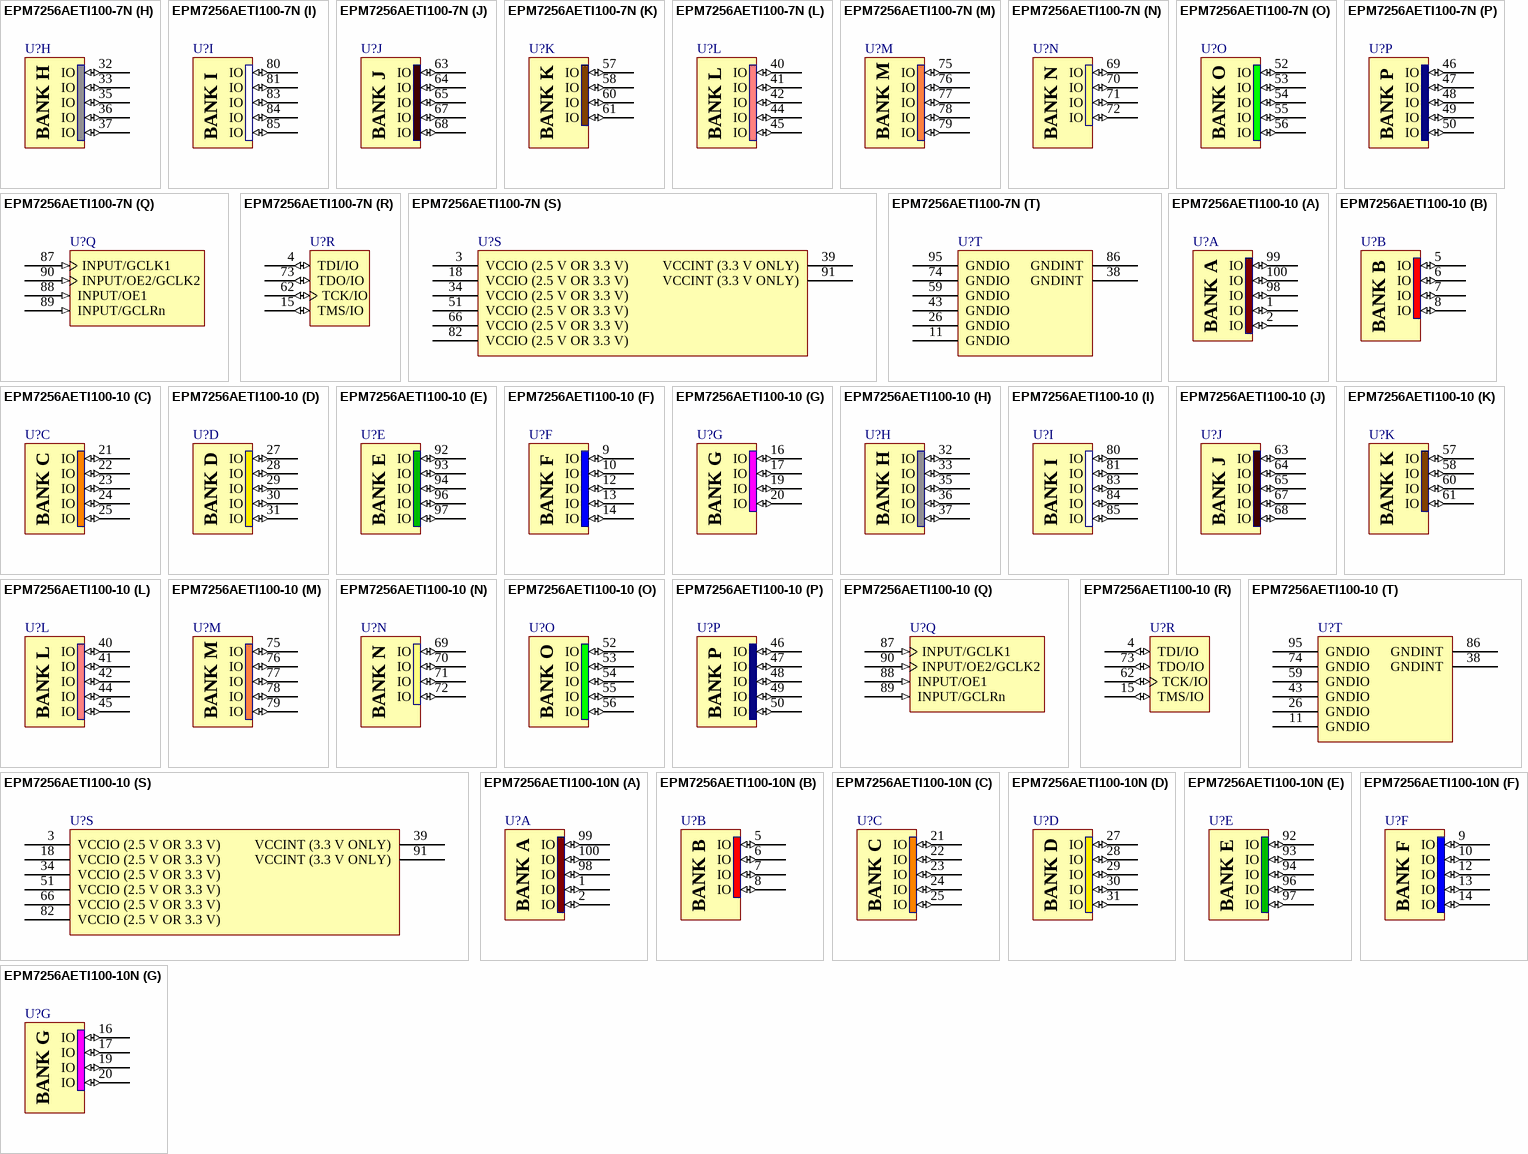
[diagram p79: symbols EPM7256AETI100-7N to EPM7256AETI100-10N]